# Altium schematic symbol library PAL.SCHLIB: 99 symbols
Pins are listed as number, name and electrical type; pins without a type are passive.

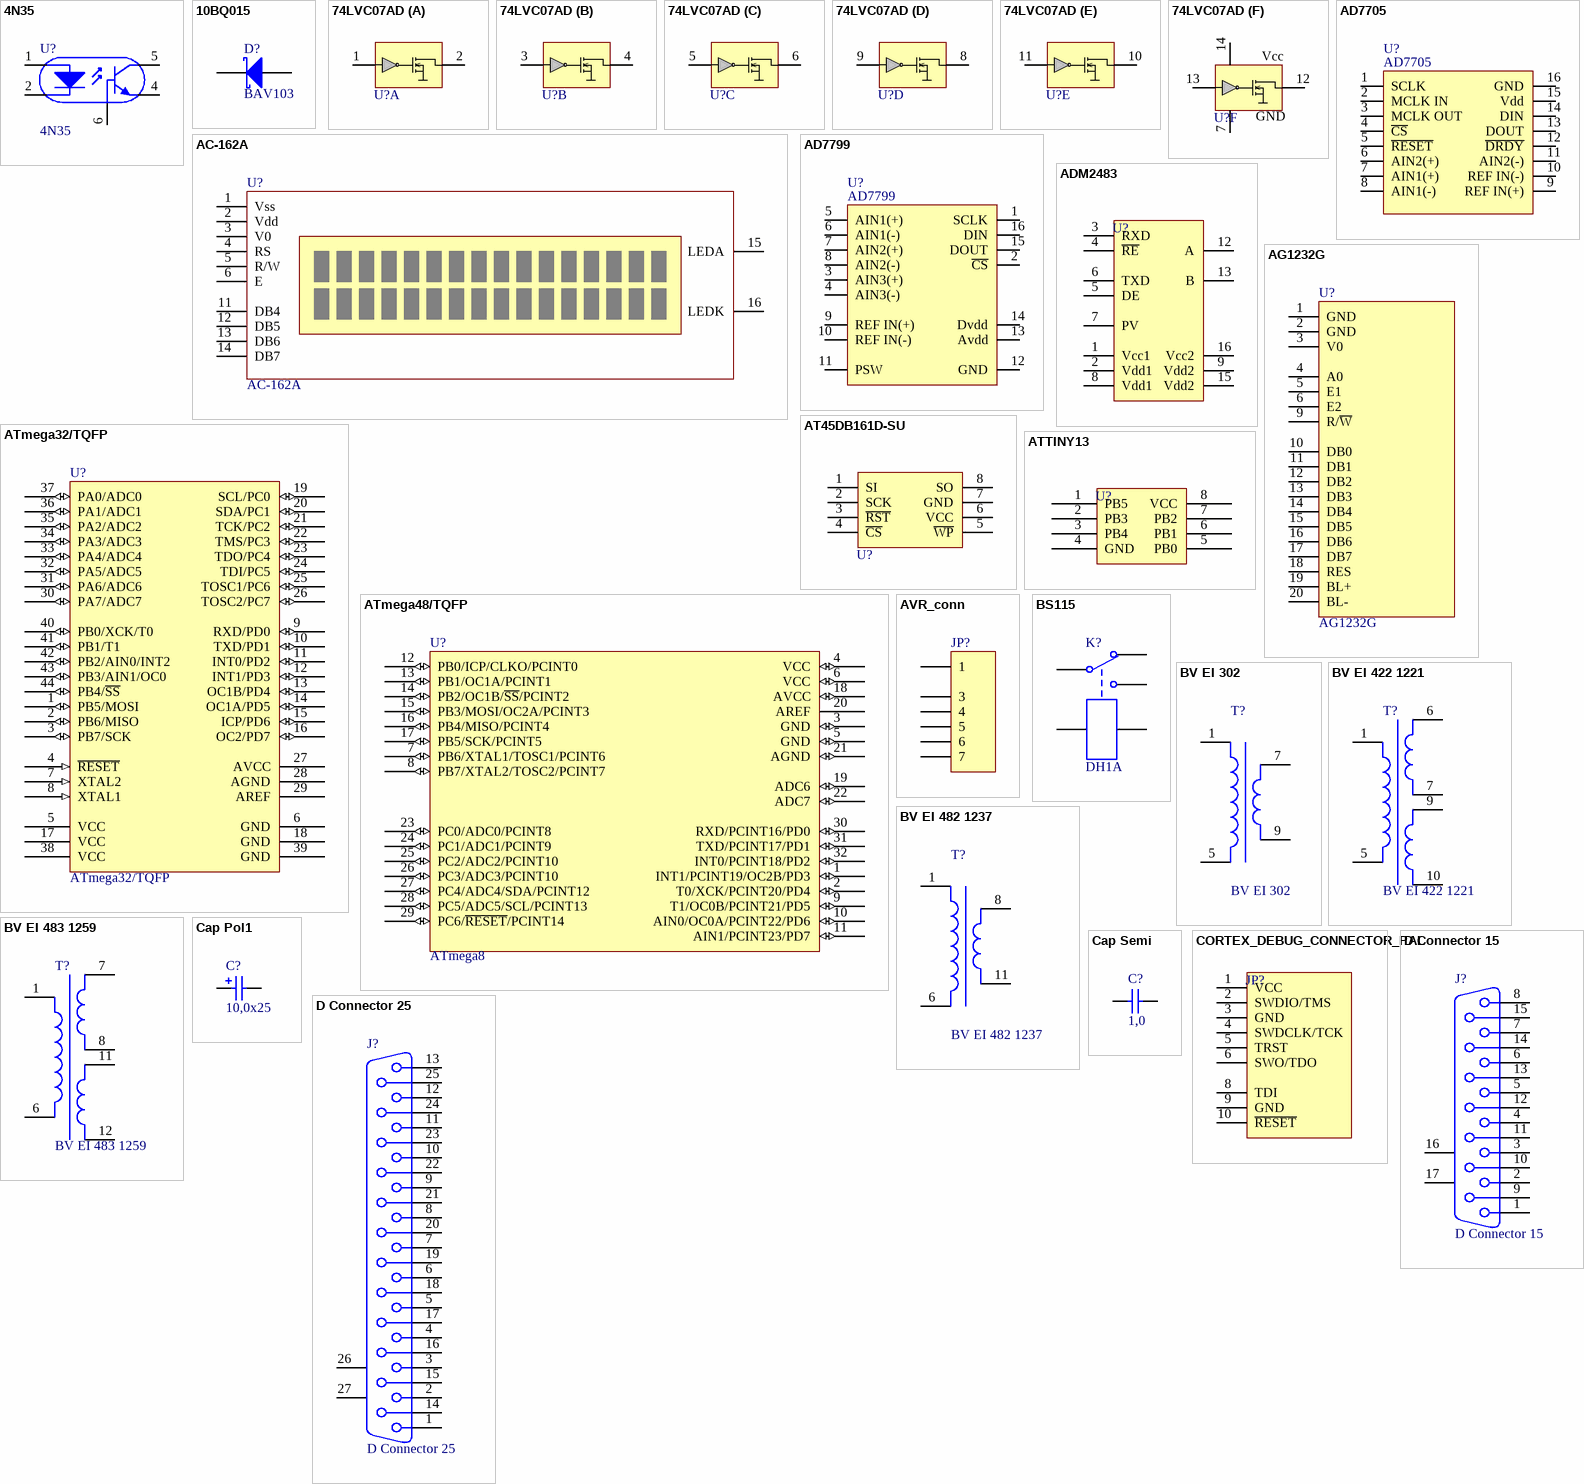
[diagram p0: symbols 4N35 to D Connector 25]

## 4N35
designator U?
footprint DIP-6
pins: 1 0, 2 1, 4, 5 2, 6 4

## 10BQ015
designator D?, comment BAV103
Schottky Rectifier; Manufacturer: International Rectifier; Revision 1: 10-July-2000: SIM Model Added.; Revision 2: July-2002: Re-released for DXP Platform.; Class I: Discrete; Class II: Rectifier - Schottky; Published: 8-Jun-2000; Datasheet: Latest Revision: PD-2.396A; Package Reference: DO-214AA; Publisher: Altium Limited
footprint _1206d (Footprint not found)
simulation model 10BQ015 (DIODE)
signal-integrity model 10BQ015
pins: 1 A, 2 K

## 74LVC07AD
designator U?
footprint SO-G14/E2
part A pins: 1 1A, 2 1Y
part B pins: 3 3A, 4 2Y
part C pins: 5 3A, 6 3Y
part D pins: 8 4Y, 9 4A
part E pins: 10 5Y, 11 5A
part F pins: 7 1Y, 12 6Y, 13 6A, 14 1Y
part F text: Vcc; GND

## AC-162A
designator U?
footprint AC162A_1
footprint AC-162A_sur
pins: 1 Vss, 2 Vdd, 3 V0, 4 RS, 5 R/W, 6 E, 11 DB4, 12 DB5, 13 DB6, 14 DB7, 15 LEDA, 16 LEDK

## AD7705
designator U?
ADC; Value: AD7705
footprint SO-G16/D10.4
pins: 1 SCLK, 2 MCLK IN, 3 MCLK OUT, 4 ~{CS}, 5 ~{RESET}, 6 AIN2(+), 7 AIN1(+), 8 AIN1(-), 9 REF IN(+), 10 REF IN(-), 11 AIN2(-), 12 ~{DRDY}, 13 DOUT, 14 DIN, 15 Vdd, 16 GND

## AD7799
designator U?
ADC; Value: AD7705
footprint SO-G16/D10.4
pins: 1 SCLK, 2 ~{CS}, 3 AIN3(+), 4 AIN3(-), 5 AIN1(+), 6 AIN1(-), 7 AIN2(+), 8 AIN2(-), 9 REF IN(+), 10 REF IN(-), 11 PSW, 12 GND, 13 Avdd, 14 Dvdd, 15 DOUT, 16 DIN

## ADM2483
designator U?
pins: 1 Vcc1, 2 Vdd1, 3 RXD, 4 ~{RE}, 5 DE, 6 TXD, 7 PV, 8 Vdd1, 9 Vdd2, 12 A, 13 B, 15 Vdd2, 16 Vcc2

## AG1232G
designator U?
footprint AG1232G
pins: 1 GND, 2 GND, 3 V0, 4 A0, 5 E1, 6 E2, 9 R/~{W}, 10 DB0, 11 DB1, 12 DB2, 13 DB3, 14 DB4, 15 DB5, 16 DB6, 17 DB7, 18 RES, 19 BL+, 20 BL-

## AT45DB161D-SU
designator U?
footprint SO-G8/G7
pins: 1 SI, 2 SCK, 3 ~{RST}, 4 ~{CS}, 5 ~{WP}, 6 VCC, 7 GND, 8 SO

## ATmega32/TQFP
designator U?
Right: 120; Bottom: 260
footprint QFP10X10-G44/N
pins: 1 PB5/MOSI (io), 2 PB6/MISO (io), 3 PB7/SCK (io), 4 ~{RESET} (in), 5 VCC (power), 6 GND (power), 7 XTAL2 (in), 8 XTAL1 (in), 9 RXD/PD0 (io), 10 TXD/PD1 (io), 11 INT0/PD2 (io), 12 INT1/PD3 (io), 13 OC1B/PD4 (io), 14 OC1A/PD5 (io), 15 ICP/PD6 (io), 16 OC2/PD7 (io), 17 VCC (power), 18 GND (power), 19 SCL/PC0 (io), 20 SDA/PC1 (io), 21 TCK/PC2 (io), 22 TMS/PC3 (io), 23 TDO/PC4 (io), 24 TDI/PC5 (io), 25 TOSC1/PC6 (io), 26 TOSC2/PC7 (io), 27 AVCC, 28 AGND, 29 AREF, 30 PA7/ADC7 (io), 31 PA6/ADC6 (io), 32 PA5/ADC5 (io), 33 PA4/ADC4 (io), 34 PA3/ADC3 (io), 35 PA2/ADC2 (io), 36 PA1/ADC1 (io), 37 PA0/ADC0 (io), 38 VCC (power), 39 GND (power), 40 PB0/XCK/T0 (io), 41 PB1/T1 (io), 42 PB2/AIN0/INT2 (io), 43 PB3/AIN1/OC0 (io), 44 PB4/~{SS} (io)

## ATmega48/TQFP
designator U?, comment ATmega8
Right: 180; Bottom: 200
footprint QFP7X7-G32/X.5N
pins: 1 INT1/PCINT19/OC2B/PD3 (io), 2 T0/XCK/PCINT20/PD4 (io), 3 GND (io), 4 VCC (io), 5 GND (io), 6 VCC (io), 7 PB6/XTAL1/TOSC1/PCINT6 (io), 8 PB7/XTAL2/TOSC2/PCINT7 (io), 9 T1/OC0B/PCINT21/PD5 (io), 10 AIN0/OC0A/PCINT22/PD6 (io), 11 AIN1/PCINT23/PD7 (io), 12 PB0/ICP/CLKO/PCINT0 (io), 13 PB1/OC1A/PCINT1 (io), 14 PB2/OC1B/~{SS}/PCINT2 (io), 15 PB3/MOSI/OC2A/PCINT3 (io), 16 PB4/MISO/PCINT4 (io), 17 PB5/SCK/PCINT5 (io), 18 AVCC (io), 19 ADC6 (io), 20 AREF, 21 AGND (io), 22 ADC7 (io), 23 PC0/ADC0/PCINT8 (io), 24 PC1/ADC1/PCINT9 (io), 25 PC2/ADC2/PCINT10 (io), 26 PC3/ADC3/PCINT10 (io), 27 PC4/ADC4/SDA/PCINT12 (io), 28 PC5/ADC5/SCL/PCINT13 (io), 29 PC6/~{RESET}/PCINT14 (io), 30 RXD/PCINT16/PD0 (io), 31 TXD/PCINT17/PD1 (io), 32 INT0/PCINT18/PD2 (io)

## ATTINY13
designator U?
pins: 1 PB5, 2 PB3, 3 PB4, 4 GND, 5 PB0, 6 PB1, 7 PB2, 8 VCC

## AVR_conn
designator JP?
Header, 7-Pin; Manufacturer: Generic Components; Class I: Connector; Revision: July-2002: Re-released for DXP Platform.; Publisher: Altium Limited
footprint AVR_CONN
pins: 1, 3, 4, 5, 6, 7

## BS115
designator K?, comment DH1A
Single-Pole Dual-Throw Relay; Manufacturer: Generic Components; Class I: Electro-mechanical; Published: 24-Mar-1999; Revision: July-2002: Re-released for DXP Platform.; Publisher: Altium Limited; Class II: Relay
footprint kuan
pins: 1, 2, 3, 4, 5

## BV EI 302
designator T?
Manufacturer: Generic Components; Class I: Passive; Class II: Transformer; Published: 25-Jan-2001; Revision: July-2002: Re-released for DXP Platform.; Publisher: Altium Limited
footprint TSP81
pins: 1 Pri+, 5 Pri-, 7 Sec1+, 9 Sec1-

## BV EI 422 1221
designator T?
Manufacturer: Generic Components; Class I: Passive; Class II: Transformer; Published: 25-Jan-2001; Revision: July-2002: Re-released for DXP Platform.; Publisher: Altium Limited
footprint TSP81
pins: 1 Pri+, 5 Pri-, 6 Sec1+, 7 Sec1-, 9 Sec1+, 10 Sec1-

## BV EI 482 1237
designator T?
Manufacturer: Generic Components; Class I: Passive; Class II: Transformer; Published: 25-Jan-2001; Revision: July-2002: Re-released for DXP Platform.; Publisher: Altium Limited
footprint TSP81
pins: 1 Pri+, 6 Pri-, 8 Sec1+, 11 Sec1-

## BV EI 483 1259
designator T?
Manufacturer: Generic Components; Class I: Passive; Class II: Transformer; Published: 25-Jan-2001; Revision: July-2002: Re-released for DXP Platform.; Publisher: Altium Limited
footprint TSP81
pins: 1 Pri+, 6 Pri-, 7 Sec1+, 8 Sec1-, 11 Sec1+, 12 Sec1-

## Cap Pol1
designator C?  value 10,0x25  (hidden comment: Cap Pol1)
Polarized Capacitor (Radial); Manufacturer: Generic Components; Class I: Passive; Published: 8-Jun-2000; Revision: July-2002: Re-released for DXP Platform.; Publisher: Altium Limited; Class II: Capacitor
footprint CAP_EL_6_3
simulation model CAP (Capacitor)
signal-integrity model Cap Pol
footprint el3
pins: 1, 2

## Cap Semi
designator C?  value 1,0  (hidden comment: Cap Semi)
Capacitor (Semiconductor SIM Model); Manufacturer: Generic Components; Class I: Passive; Published: 8-Jun-2000; Revision: July-2002: Re-released for DXP Platform.; Publisher: Altium Limited; Class II: Capacitor
footprint C3216-1206
simulation model CAP (Semiconductor Capacitor)
signal-integrity model Cap Semi
pins: 1, 2

## CORTEX_DEBUG_CONNECTOR_PAL
designator JP?
pins: 1 VCC, 2 SWDIO/TMS, 3 GND, 4 SWDCLK/TCK, 5 TRST, 6 SWO/TDO, 8 TDI, 9 GND, 10 ~{RESET}

## D Connector 15
designator J?
Receptacle Assembly, 15 Position, Right Angle; Manufacturer: Generic Components; Package Information: Latest Revision: O; Positions: 15; Published: 15-Jun-2001; Revision: July-2002: Re-released for DXP Platform.; Datasheet: (1-Sep-99); Package Reference: 788757; Publisher: Altium Limited; Class I: Connector; Orientation: Right Angle; Gender: Receptacle
footprint DSUB1.385-2H15
signal-integrity model Connector
pins: 1, 2, 3, 4, 5, 6, 7, 8, 9, 10, 11, 12, 13, 14, 15, 16 MH1, 17 MH2

## D Connector 25
designator J?
Receptacle Assembly, 25 Position, Right Angle; Manufacturer: Generic Components; Package Information: Latest Revision: U; Positions: 25; Published: 15-Jun-2001; Revision: July-2002: Re-released for DXP Platform.; Datasheet: (19-Mar-1999); Package Reference: 787202; Publisher: Altium Limited; Class I: Connector; Orientation: Right Angle; Gender: Receptacle
footprint DSUB1.385-2H25A
signal-integrity model Connector
pins: 1, 2, 3, 4, 5, 6, 7, 8, 9, 10, 11, 12, 13, 14, 15, 16, 17, 18, 19, 20, 21, 22, 23, 24, 25, 26 MH1, 27 MH2

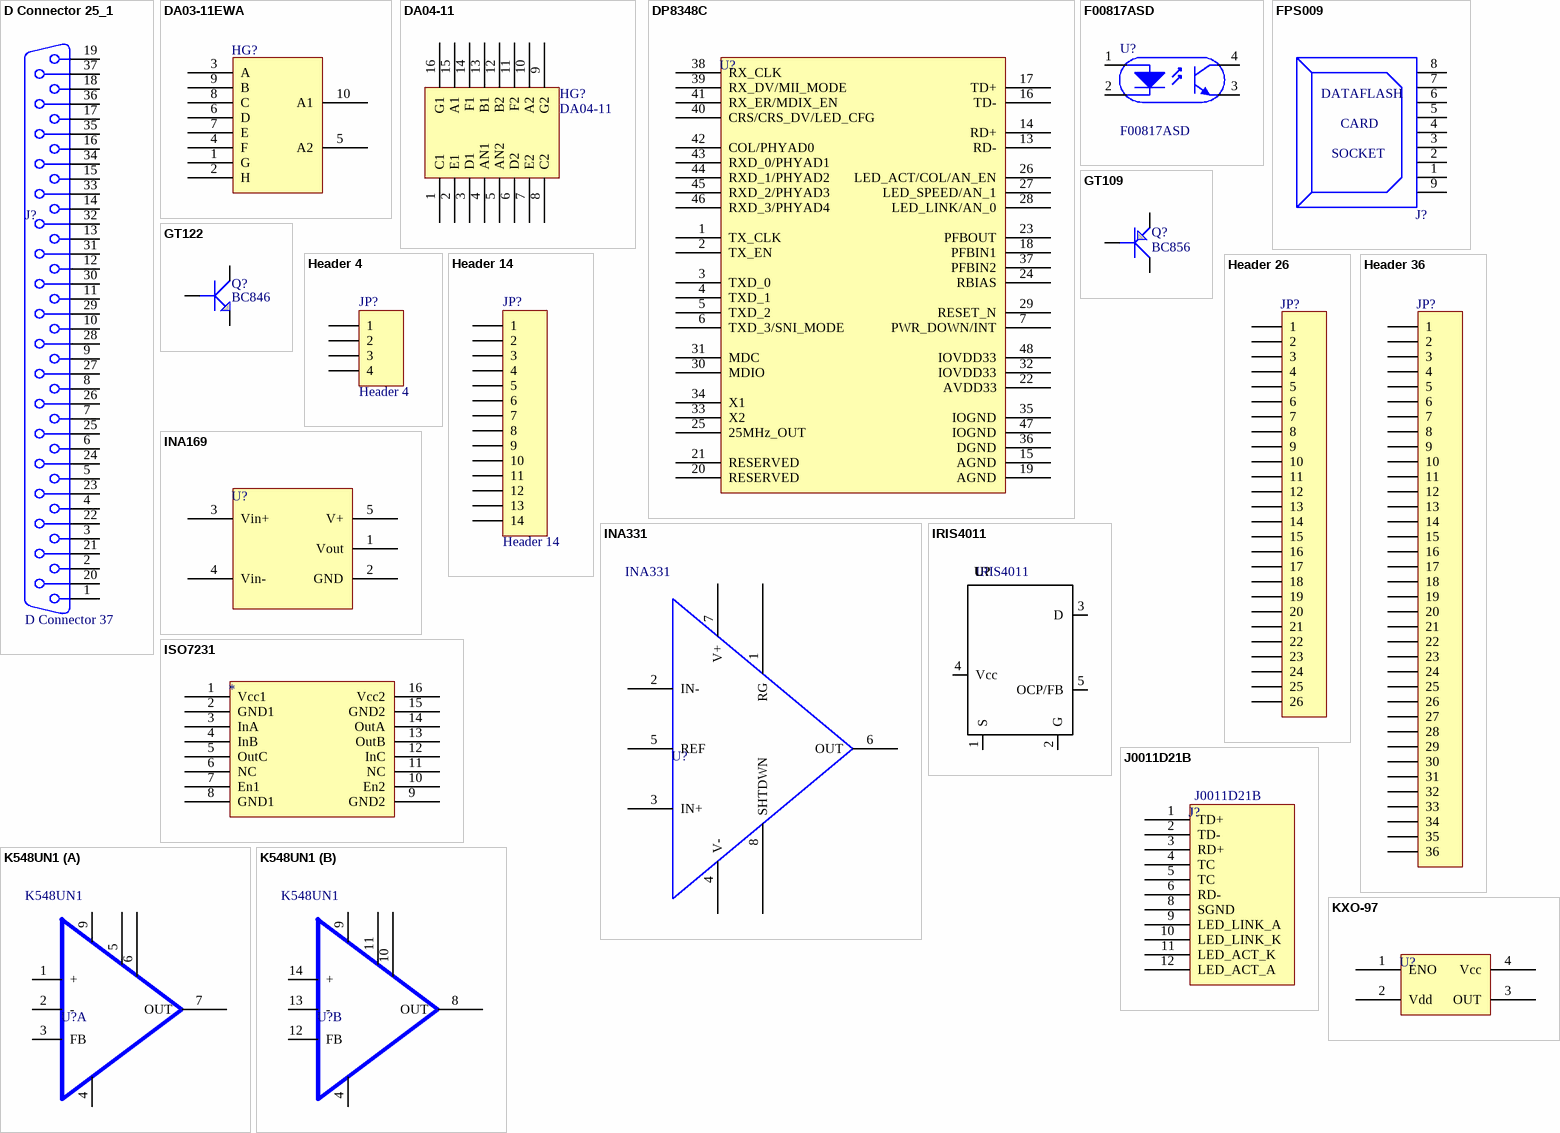
[diagram p1: symbols D Connector 25_1 to KXO-97]

## D Connector 25_1
designator J?, comment D Connector 37
Receptacle Assembly, 25 Position, Right Angle; Manufacturer: Generic Components; Package Information: Latest Revision: U; Positions: 25; Published: 15-Jun-2001; Revision: July-2002: Re-released for DXP Platform.; Datasheet: (19-Mar-1999); Package Reference: 787202; Publisher: Altium Limited; Class I: Connector; Orientation: Right Angle; Gender: Receptacle
footprint DSUB1.385-2H25A
signal-integrity model Connector
pins: 1, 2, 3, 4, 5, 6, 7, 8, 9, 10, 11, 12, 13, 14, 15, 16, 17, 18, 19, 20, 21, 22, 23, 24, 25, 26, 27, 28, 29, 30, 31, 32, 33, 34, 35, 36, 37

## DA03-11EWA
designator HG?
pins: 1 G, 2 H, 3 A, 4 F, 5 A2, 6 D, 7 E, 8 C, 9 B, 10 A1

## DA04-11
designator HG?
footprint DA04-11
pins: 1 C1, 2 E1, 3 D1, 4 AN1, 5 AN2, 6 D2, 7 E2, 8 C2, 9 G2, 10 A2, 11 F2, 12 B2, 13 B1, 14 F1, 15 A1, 16 G1

## DP8348C
designator U?
pins: 1 TX_CLK, 2 TX_EN, 3 TXD_0, 4 TXD_1, 5 TXD_2, 6 TXD_3/SNI_MODE, 7 PWR_DOWN/INT, 13 RD-, 14 RD+, 15 AGND, 16 TD-, 17 TD+, 18 PFBIN1, 19 AGND, 20 RESERVED, 21 RESERVED, 22 AVDD33, 23 PFBOUT, 24 RBIAS, 25 25MHz_OUT, 26 LED_ACT/COL/AN_EN, 27 LED_SPEED/AN_1, 28 LED_LINK/AN_0, 29 RESET_N, 30 MDIO, 31 MDC, 32 IOVDD33, 33 X2, 34 X1, 35 IOGND, 36 DGND, 37 PFBIN2, 38 RX_CLK, 39 RX_DV/MII_MODE, 40 CRS/CRS_DV/LED_CFG, 41 RX_ER/MDIX_EN, 42 COL/PHYAD0, 43 RXD_0/PHYAD1, 44 RXD_1/PHYAD2, 45 RXD_2/PHYAD3, 46 RXD_3/PHYAD4, 47 IOGND, 48 IOVDD33

## F00817ASD
designator U?
footprint DIP-6
pins: 1 0, 2 1, 3 4, 4 2

## FPS009
designator J?
DATAFLASH CARD SOCKET
pins: 1, 2, 3, 4, 5, 6, 7, 8, 9
text: DATAFLASH; CARD; SOCKET

## GT109
designator Q?, comment BC856
Right: 20; Bottom: 20
footprint SO-G3 (Model Description)
pins: 1 B, 2 E, 3 C

## GT122
designator Q?, comment BC846
Right: 20; Bottom: 20
footprint SO-G3 (Model Description)
pins: 1 B, 2 E, 3 C

## Header 4
designator JP?
Header, 4-Pin; Manufacturer: Generic Components; Class I: Connector; Revision: July-2002: Re-released for DXP Platform.; Publisher: Altium Limited
footprint HDR1X4
signal-integrity model Connector
pins: 1, 2, 3, 4

## Header 14
designator JP?
Header, 14-Pin; Manufacturer: Generic Components; Class I: Connector; Revision: July-2002: Re-released for DXP Platform.; Publisher: Altium Limited
footprint HDR2X7
signal-integrity model Connector
pins: 1, 2, 3, 4, 5, 6, 7, 8, 9, 10, 11, 12, 13, 14

## Header 26
designator JP?
Header, 26-Pin; Manufacturer: Generic Components; Class I: Connector; Revision: July-2002: Re-released for DXP Platform.; Publisher: Altium Limited
footprint HDR1X25
signal-integrity model Connector
pins: 1, 2, 3, 4, 5, 6, 7, 8, 9, 10, 11, 12, 13, 14, 15, 16, 17, 18, 19, 20, 21, 22, 23, 24, 25, 26

## Header 36
designator JP?
Header, 36-Pin; Manufacturer: Generic Components; Class I: Connector; Revision: July-2002: Re-released for DXP Platform.; Publisher: Altium Limited
footprint HDR1X25
signal-integrity model Connector
pins: 1, 2, 3, 4, 5, 6, 7, 8, 9, 10, 11, 12, 13, 14, 15, 16, 17, 18, 19, 20, 21, 22, 23, 24, 25, 26, 27, 28, 29, 30, 31, 32, 33, 34, 35, 36

## INA169
designator U?
footprint SO-G5/P.95 (Footprint not found)
pins: 1 Vout, 2 GND, 3 Vin+, 4 Vin-, 5 V+

## INA331
designator U?
pins: 1 RG, 2 IN-, 3 IN+, 4 V-, 5 REF, 6 OUT, 7 V+, 8 SHTDWN

## IRIS4011
designator U?
TYPE: IRIS4011
footprint TO-220HS (TO, Thru-Hole, Vertical, Heatsink Mounted; 5 In-Line Leads; Pitch 1.71 mm)
pins: 1 S, 2 G, 3 D, 4 Vcc, 5 OCP/FB

## ISO7231
designator *
pins: 1 Vcc1, 2 GND1, 3 InA, 4 InB, 5 OutC, 6 NC, 7 En1, 8 GND1, 9 GND2, 10 En2, 11 NC, 12 InC, 13 OutB, 14 OutA, 15 GND2, 16 Vcc2

## J0011D21B
designator J?
pins: 1 TD+, 2 TD-, 3 RD+, 4 TC, 5 TC, 6 RD-, 8 SGND, 9 LED_LINK_A, 10 LED_LINK_K, 11 LED_ACT_K, 12 LED_ACT_A

## K548UN1
designator U?
Dual motor driver; Manufacturer: International Rectifier; Revision 1: 29-Sep-2000: Re-orientated a 'Drain' pin on first part.; Revision 2: July-2002: Re-released for DXP Platform.; Class I: Discrete; Class II: MOSFET - Power; Published: 8-Jun-2000; Datasheet: Latest Revision: Aug-1997; Package Reference: SOIC8; Publisher: Altium Limited
footprint SO-G8/Y2.2
part A pins: 1 +, 2 -, 3 FB, 4 GND, 5 GND, 6 GND, 7 OUT, 9 GND
part B pins: 4 GND, 8 OUT, 9 GND, 10 GND, 11 GND, 12 FB, 13 -, 14 +

## KXO-97
designator U?
pins: 1 ENO, 2 Vdd, 3 OUT, 4 Vcc

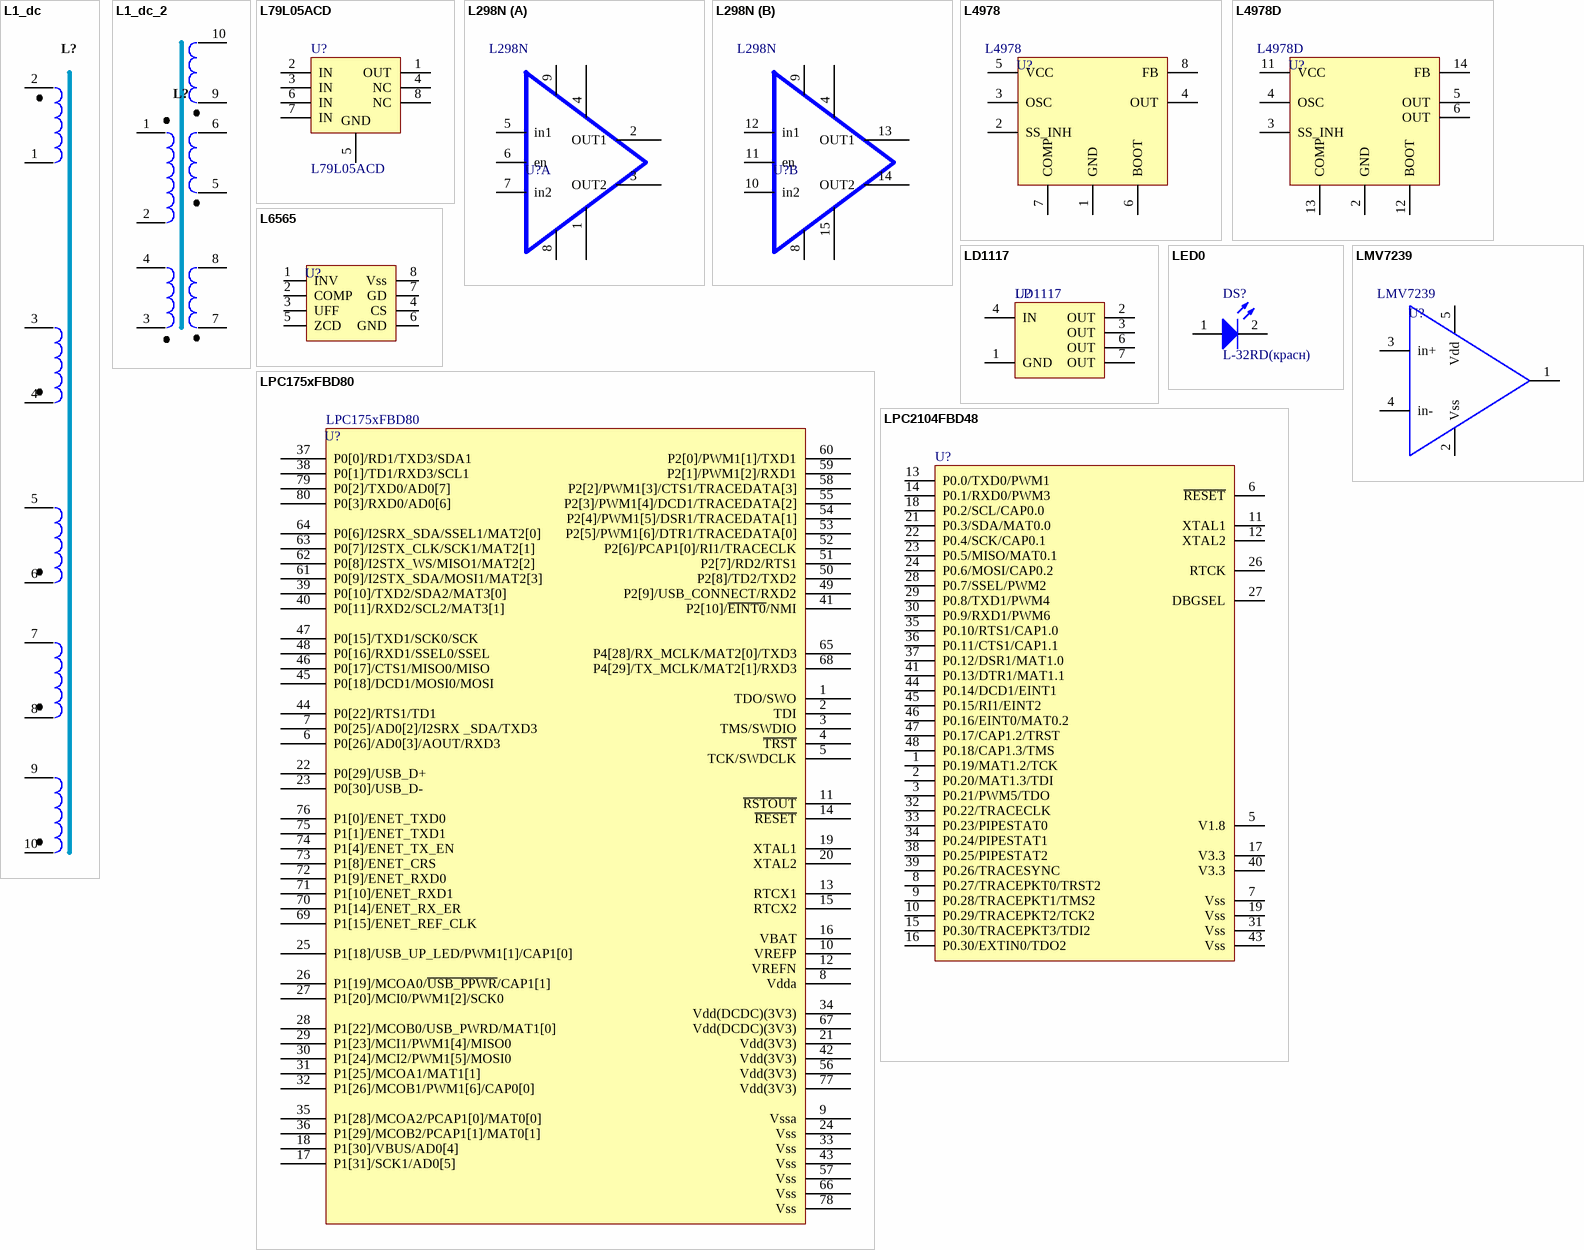
[diagram p2: symbols L1_dc to LPC2104FBD48]

## L1_dc
designator L?  (value not drawn)
Дроссель
footprint E25/13/7_EF-25_P-2549
pins: 1, 2, 3, 4, 5, 6, 7, 8, 9, 10

## L1_dc_2
designator L?  (value not drawn)
Дроссель
footprint E25/13/7_EF-25_P-2549
pins: 1, 2, 3, 4, 5, 6, 7, 8, 9, 10

## L79L05ACD
designator U?
Negative Voltage Regulator; Manufacturer: ST-Microelectronics; Package Information: Latest Revision: Jul-1998; Class I: Power Management; Published: 24-Aug-2001; Revision: July-2002: Re-released for DXP Platform.; Datasheet: Latest Revision: Apr-1999; Package Reference: SO8; Publisher: Altium Limited; Class II: Voltage Regulator
footprint SO-G8
pins: 1 OUT (power), 2 IN (power), 3 IN (power), 4 NC, 5 GND (power), 6 IN (power), 7 IN (power), 8 NC

## L298N
designator U?
Dual motor driver; Manufacturer: International Rectifier; Revision 1: 29-Sep-2000: Re-orientated a 'Drain' pin on first part.; Revision 2: July-2002: Re-released for DXP Platform.; Class I: Discrete; Class II: MOSFET - Power; Published: 8-Jun-2000; Datasheet: Latest Revision: Aug-1997; Package Reference: SOIC8; Publisher: Altium Limited
footprint SO-G8/Y2.2
part A pins: 1 GND, 2 OUT1, 3 OUT2, 4 GND, 5 in1, 6 en, 7 in2, 8 GND, 9 GND
part B pins: 4 GND, 8 GND, 9 GND, 10 in2, 11 en, 12 in1, 13 OUT1, 14 OUT2, 15 GND

## L4978
designator U?
pins: 1 GND, 2 SS_INH, 3 OSC, 4 OUT, 5 VCC, 6 BOOT, 7 COMP, 8 FB

## L4978D
designator U?
pins: 2 GND, 3 SS_INH, 4 OSC, 5 OUT, 6 OUT, 11 VCC, 12 BOOT, 13 COMP, 14 FB

## L6565
designator U?
pins: 1 INV, 2 COMP, 3 UFF, 4 CS, 5 ZCD, 6 GND, 7 GD, 8 Vss

## LD1117
designator U?
Negative Voltage Regulator; Manufacturer: ST-Microelectronics; Package Information: Latest Revision: Jul-1998; Class I: Power Management; Published: 24-Aug-2001; Revision: July-2002: Re-released for DXP Platform.; Datasheet: Latest Revision: Apr-1999; Package Reference: SO8; Publisher: Altium Limited; Class II: Voltage Regulator
footprint SO-G8
pins: 1 GND (power), 2 OUT (power), 3 OUT (power), 4 IN (power), 6 OUT (power), 7 OUT (power)

## LED0
designator DS?, comment L-32RD(красн)
Typical INFRARED GaAs LED; Manufacturer: Generic Components; Class I: Optoelectronic; Published: 8-Jun-2000; Revision: July-2002: Re-released for DXP Platform.; Publisher: Altium Limited; Class II: LED
footprint el3
simulation model LED0 (Diode)
pins: 1 A, 2 K

## LMV7239
designator U?
pins: 1 GND, 2 Vss, 3 in+, 4 in-, 5 Vdd

## LPC175xFBD80
designator U?
footprint LPC2368
pins: 1 TDO/SWO, 2 TDI, 3 TMS/SWDIO, 4 ~{TRST}, 5 TCK/SWDCLK, 6 P0[26]/AD0[3]/AOUT/RXD3, 7 P0[25]/AD0[2]/I2SRX _SDA/TXD3, 8 Vdda, 9 Vssa, 10 VREFP, 11 ~{RSTOUT}, 12 VREFN, 13 RTCX1, 14 ~{RESET}, 15 RTCX2, 16 VBAT, 17 P1[31]/SCK1/AD0[5], 18 P1[30]/VBUS/AD0[4], 19 XTAL1, 20 XTAL2, 21 Vdd(3V3), 22 P0[29]/USB_D+, 23 P0[30]/USB_D-, 24 Vss, 25 P1[18]/USB_UP_LED/PWM1[1]/CAP1[0], 26 P1[19]/MCOA0/~{USB_PPWR}/CAP1[1], 27 P1[20]/MCI0/PWM1[2]/SCK0, 28 P1[22]/MCOB0/USB_PWRD/MAT1[0], 29 P1[23]/MCI1/PWM1[4]/MISO0, 30 P1[24]/MCI2/PWM1[5]/MOSI0, 31 P1[25]/MCOA1/MAT1[1], 32 P1[26]/MCOB1/PWM1[6]/CAP0[0], 33 Vss, 34 Vdd(DCDC)(3V3), 35 P1[28]/MCOA2/PCAP1[0]/MAT0[0], 36 P1[29]/MCOB2/PCAP1[1]/MAT0[1], 37 P0[0]/RD1/TXD3/SDA1, 38 P0[1]/TD1/RXD3/SCL1, 39 P0[10]/TXD2/SDA2/MAT3[0], 40 P0[11]/RXD2/SCL2/MAT3[1], 41 P2[10]/~{EINT0}/NMI, 42 Vdd(3V3), 43 Vss, 44 P0[22]/RTS1/TD1, 45 P0[18]/DCD1/MOSI0/MOSI, 46 P0[17]/CTS1/MISO0/MISO, 47 P0[15]/TXD1/SCK0/SCK, 48 P0[16]/RXD1/SSEL0/SSEL, 49 P2[9]/USB_CONNECT/RXD2, 50 P2[8]/TD2/TXD2, 51 P2[7]/RD2/RTS1, 52 P2[6]/PCAP1[0]/RI1/TRACECLK, 53 P2[5]/PWM1[6]/DTR1/TRACEDATA[0], 54 P2[4]/PWM1[5]/DSR1/TRACEDATA[1], 55 P2[3]/PWM1[4]/DCD1/TRACEDATA[2], 56 Vdd(3V3), 57 Vss, 58 P2[2]/PWM1[3]/CTS1/TRACEDATA[3], 59 P2[1]/PWM1[2]/RXD1, 60 P2[0]/PWM1[1]/TXD1, 61 P0[9]/I2STX_SDA/MOSI1/MAT2[3], 62 P0[8]/I2STX_WS/MISO1/MAT2[2], 63 P0[7]/I2STX_CLK/SCK1/MAT2[1], 64 P0[6]/I2SRX_SDA/SSEL1/MAT2[0], 65 P4[28]/RX_MCLK/MAT2[0]/TXD3, 66 Vss, 67 Vdd(DCDC)(3V3), 68 P4[29]/TX_MCLK/MAT2[1]/RXD3, 69 P1[15]/ENET_REF_CLK, 70 P1[14]/ENET_RX_ER, 71 P1[10]/ENET_RXD1, 72 P1[9]/ENET_RXD0, 73 P1[8]/ENET_CRS, 74 P1[4]/ENET_TX_EN, 75 P1[1]/ENET_TXD1, 76 P1[0]/ENET_TXD0, 77 Vdd(3V3), 78 Vss, 79 P0[2]/TXD0/AD0[7], 80 P0[3]/RXD0/AD0[6]

## LPC2104FBD48
designator U?
footprint F-QFP7X7-G48/N
pins: 1 P0.19/MAT1.2/TCK, 2 P0.20/MAT1.3/TDI, 3 P0.21/PWM5/TDO, 5 V1.8, 6 ~{RESET}, 7 Vss, 8 P0.27/TRACEPKT0/TRST2, 9 P0.28/TRACEPKT1/TMS2, 10 P0.29/TRACEPKT2/TCK2, 11 XTAL1, 12 XTAL2, 13 P0.0/TXD0/PWM1, 14 P0.1/RXD0/PWM3, 15 P0.30/TRACEPKT3/TDI2, 16 P0.30/EXTIN0/TDO2, 17 V3.3, 18 P0.2/SCL/CAP0.0, 19 Vss, 21 P0.3/SDA/MAT0.0, 22 P0.4/SCK/CAP0.1, 23 P0.5/MISO/MAT0.1, 24 P0.6/MOSI/CAP0.2, 26 RTCK, 27 DBGSEL, 28 P0.7/SSEL/PWM2, 29 P0.8/TXD1/PWM4, 30 P0.9/RXD1/PWM6, 31 Vss, 32 P0.22/TRACECLK, 33 P0.23/PIPESTAT0, 34 P0.24/PIPESTAT1, 35 P0.10/RTS1/CAP1.0, 36 P0.11/CTS1/CAP1.1, 37 P0.12/DSR1/MAT1.0, 38 P0.25/PIPESTAT2, 39 P0.26/TRACESYNC, 40 V3.3, 41 P0.13/DTR1/MAT1.1, 43 Vss, 44 P0.14/DCD1/EINT1, 45 P0.15/RI1/EINT2, 46 P0.16/EINT0/MAT0.2, 47 P0.17/CAP1.2/TRST, 48 P0.18/CAP1.3/TMS

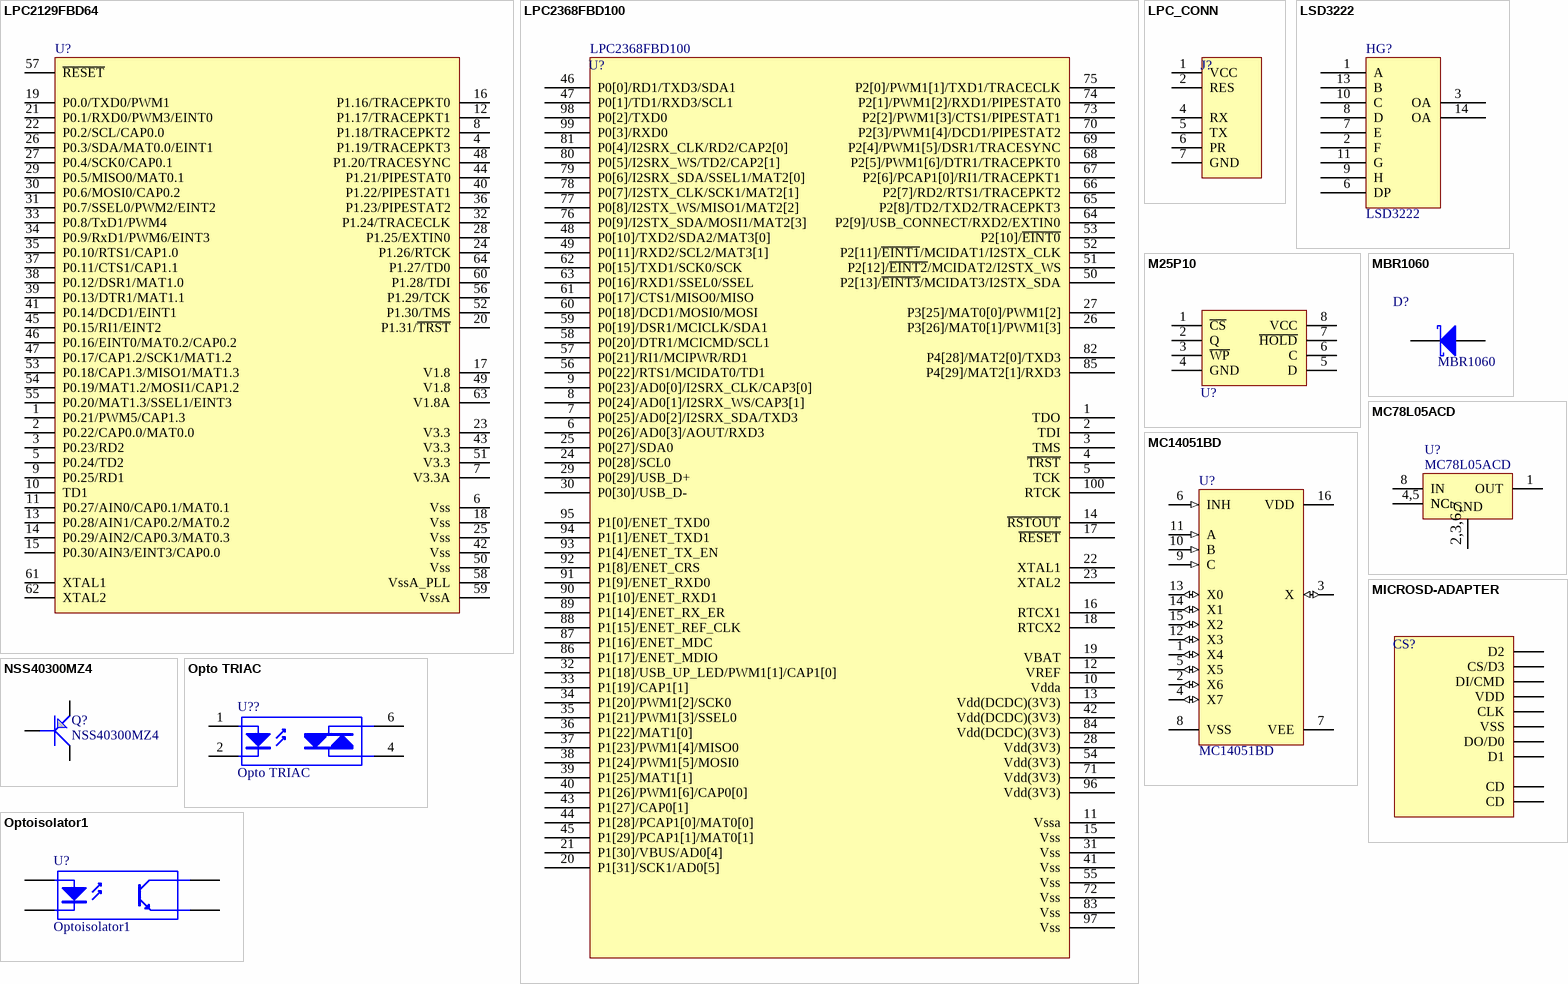
[diagram p3: symbols LPC2129FBD64 to Optoisolator1]

## LPC2129FBD64
designator U?
footprint F-QFP10X10-G64/P.5N
pins: 1 P0.21/PWM5/CAP1.3, 2 P0.22/CAP0.0/MAT0.0, 3 P0.23/RD2, 4 P1.19/TRACEPKT3, 5 P0.24/TD2, 6 Vss, 7 V3.3A, 8 P1.18/TRACEPKT2, 9 P0.25/RD1, 10 TD1, 11 P0.27/AIN0/CAP0.1/MAT0.1, 12 P1.17/TRACEPKT1, 13 P0.28/AIN1/CAP0.2/MAT0.2, 14 P0.29/AIN2/CAP0.3/MAT0.3, 15 P0.30/AIN3/EINT3/CAP0.0, 16 P1.16/TRACEPKT0, 17 V1.8, 18 Vss, 19 P0.0/TXD0/PWM1, 20 P1.31/~{TRST}, 21 P0.1/RXD0/PWM3/EINT0, 22 P0.2/SCL/CAP0.0, 23 V3.3, 24 P1.26/RTCK, 25 Vss, 26 P0.3/SDA/MAT0.0/EINT1, 27 P0.4/SCK0/CAP0.1, 28 P1.25/EXTIN0, 29 P0.5/MISO0/MAT0.1, 30 P0.6/MOSI0/CAP0.2, 31 P0.7/SSEL0/PWM2/EINT2, 32 P1.24/TRACECLK, 33 P0.8/TxD1/PWM4, 34 P0.9/RxD1/PWM6/EINT3, 35 P0.10/RTS1/CAP1.0, 36 P1.23/PIPESTAT2, 37 P0.11/CTS1/CAP1.1, 38 P0.12/DSR1/MAT1.0, 39 P0.13/DTR1/MAT1.1, 40 P1.22/PIPESTAT1, 41 P0.14/DCD1/EINT1, 42 Vss, 43 V3.3, 44 P1.21/PIPESTAT0, 45 P0.15/RI1/EINT2, 46 P0.16/EINT0/MAT0.2/CAP0.2, 47 P0.17/CAP1.2/SCK1/MAT1.2, 48 P1.20/TRACESYNC, 49 V1.8, 50 Vss, 51 V3.3, 52 P1.30/TMS, 53 P0.18/CAP1.3/MISO1/MAT1.3, 54 P0.19/MAT1.2/MOSI1/CAP1.2, 55 P0.20/MAT1.3/SSEL1/EINT3, 56 P1.29/TCK, 57 ~{RESET}, 58 VssA_PLL, 59 VssA, 60 P1.28/TDI, 61 XTAL1, 62 XTAL2, 63 V1.8A, 64 P1.27/TD0

## LPC2368FBD100
designator U?
footprint LPC2368
pins: 1 TDO, 2 TDI, 3 TMS, 4 ~{TRST}, 5 TCK, 6 P0[26]/AD0[3]/AOUT/RXD3, 7 P0[25]/AD0[2]/I2SRX_SDA/TXD3, 8 P0[24]/AD0[1]/I2SRX_WS/CAP3[1], 9 P0[23]/AD0[0]/I2SRX_CLK/CAP3[0], 10 Vdda, 11 Vssa, 12 VREF, 13 Vdd(DCDC)(3V3), 14 ~{RSTOUT}, 15 Vss, 16 RTCX1, 17 ~{RESET}, 18 RTCX2, 19 VBAT, 20 P1[31]/SCK1/AD0[5], 21 P1[30]/VBUS/AD0[4], 22 XTAL1, 23 XTAL2, 24 P0[28]/SCL0, 25 P0[27]/SDA0, 26 P3[26]/MAT0[1]/PWM1[3], 27 P3[25]/MAT0[0]/PWM1[2], 28 Vdd(3V3), 29 P0[29]/USB_D+, 30 P0[30]/USB_D-, 31 Vss, 32 P1[18]/USB_UP_LED/PWM1[1]/CAP1[0], 33 P1[19]/CAP1[1], 34 P1[20]/PWM1[2]/SCK0, 35 P1[21]/PWM1[3]/SSEL0, 36 P1[22]/MAT1[0], 37 P1[23]/PWM1[4]/MISO0, 38 P1[24]/PWM1[5]/MOSI0, 39 P1[25]/MAT1[1], 40 P1[26]/PWM1[6]/CAP0[0], 41 Vss, 42 Vdd(DCDC)(3V3), 43 P1[27]/CAP0[1], 44 P1[28]/PCAP1[0]/MAT0[0], 45 P1[29]/PCAP1[1]/MAT0[1], 46 P0[0]/RD1/TXD3/SDA1, 47 P0[1]/TD1/RXD3/SCL1, 48 P0[10]/TXD2/SDA2/MAT3[0], 49 P0[11]/RXD2/SCL2/MAT3[1], 50 P2[13]/~{EINT3}/MCIDAT3/I2STX_SDA, 51 P2[12]/~{EINT2}/MCIDAT2/I2STX_WS, 52 P2[11]/~{EINT1}/MCIDAT1/I2STX_CLK, 53 P2[10]/~{EINT0}, 54 Vdd(3V3), 55 Vss, 56 P0[22]/RTS1/MCIDAT0/TD1, 57 P0[21]/RI1/MCIPWR/RD1, 58 P0[20]/DTR1/MCICMD/SCL1, 59 P0[19]/DSR1/MCICLK/SDA1, 60 P0[18]/DCD1/MOSI0/MOSI, 61 P0[17]/CTS1/MISO0/MISO, 62 P0[15]/TXD1/SCK0/SCK, 63 P0[16]/RXD1/SSEL0/SSEL, 64 P2[9]/USB_CONNECT/RXD2/EXTIN0, 65 P2[8]/TD2/TXD2/TRACEPKT3, 66 P2[7]/RD2/RTS1/TRACEPKT2, 67 P2[6]/PCAP1[0]/RI1/TRACEPKT1, 68 P2[5]/PWM1[6]/DTR1/TRACEPKT0, 69 P2[4]/PWM1[5]/DSR1/TRACESYNC, 70 P2[3]/PWM1[4]/DCD1/PIPESTAT2, 71 Vdd(3V3), 72 Vss, 73 P2[2]/PWM1[3]/CTS1/PIPESTAT1, 74 P2[1]/PWM1[2]/RXD1/PIPESTAT0, 75 P2[0]/PWM1[1]/TXD1/TRACECLK, 76 P0[9]/I2STX_SDA/MOSI1/MAT2[3], 77 P0[8]/I2STX_WS/MISO1/MAT2[2], 78 P0[7]/I2STX_CLK/SCK1/MAT2[1], 79 P0[6]/I2SRX_SDA/SSEL1/MAT2[0], 80 P0[5]/I2SRX_WS/TD2/CAP2[1], 81 P0[4]/I2SRX_CLK/RD2/CAP2[0], 82 P4[28]/MAT2[0]/TXD3, 83 Vss, 84 Vdd(DCDC)(3V3), 85 P4[29]/MAT2[1]/RXD3, 86 P1[17]/ENET_MDIO, 87 P1[16]/ENET_MDC, 88 P1[15]/ENET_REF_CLK, 89 P1[14]/ENET_RX_ER, 90 P1[10]/ENET_RXD1, 91 P1[9]/ENET_RXD0, 92 P1[8]/ENET_CRS, 93 P1[4]/ENET_TX_EN, 94 P1[1]/ENET_TXD1, 95 P1[0]/ENET_TXD0, 96 Vdd(3V3), 97 Vss, 98 P0[2]/TXD0, 99 P0[3]/RXD0, 100 RTCK

## LPC_CONN
designator J?
pins: 1 VCC, 2 RES, 4 RX, 5 TX, 6 PR, 7 GND

## LSD3222
designator HG?
footprint LSD3222
pins: 1 A, 2 F, 3 OA, 6 DP, 7 E, 8 D, 9 H, 10 C, 11 G, 13 B, 14 OA

## M25P10
designator U?
footprint SO-G8
pins: 1 ~{CS}, 2 Q, 3 ~{WP}, 4 GND, 5 D, 6 C, 7 ~{HOLD}, 8 VCC

## MBR1060
designator D?
Schottky Rectifier; Manufacturer: International Rectifier; Revision 1: 10-July-2000: SIM Model Added.; Revision 2: July-2002: Re-released for DXP Platform.; Class I: Discrete; Class II: Rectifier - Schottky; Published: 8-Jun-2000; Datasheet: Latest Revision: PD-2.396A; Package Reference: DO-214AA; Publisher: Altium Limited
footprint MBR1060 (Footprint not found)
simulation model 10BQ015 (DIODE)
signal-integrity model 10BQ015
pins: 1 K, 2 A

## MC78L05ACD
designator U?
3-Terminal Low-Current Positive Fixed Voltage Regulator; Manufacturer: Motorola; Class I: Power Management; Published: 15-Apr-2002; Datasheet: Linear and Interface Integrated Circuits, DL128 Rev2 (1988); Package Reference: 751-02; Publisher: Altium Limited; Class II: Voltage Regulator
footprint SO-G8
pins: 1 OUT (power), 2 GND (power), 3 GND (power), 4 NC, 5 NC, 6 GND (power), 7 GND (power), 8 IN (power)
text: 4,5; 2,3,6,7

## MC14051BD
designator U?
8-Channel Analog Multiplexer/Demultiplexer; Manufacturer: ON Semiconductor; Class I: Logic; Class II: Multiplexer/Encoder/Selector; Published: 15-Apr-2002; Package Reference: 751B-05; Publisher: Altium Limited
footprint SO-G16/C5.85
pins: 1 X4 (io), 2 X6 (io), 3 X (io), 4 X7 (io), 5 X5 (io), 6 INH (in), 7 VEE (power), 8 VSS (power), 9 C (in), 10 B (in), 11 A (in), 12 X3 (io), 13 X0 (io), 14 X1 (io), 15 X2 (io), 16 VDD (power)

## MICROSD-ADAPTER
designator CS?
pins: 1 D2, 2 CS/D3, 3 DI/CMD, 4 VDD, 5 CLK, 6 VSS, 7 DO/D0, 8 D1, 9 CD, 10 CD

## NSS40300MZ4
designator Q?
Right: 20; Bottom: 20
footprint DSO-G3
pins: 1 B, 2 C, 3 E, 4 C

## Opto TRIAC
designator U??
Opto-Triac; Manufacturer: Generic Components; Class I: Optoelectronic; Published: 24-Mar-1999; Revision: July-2002: Re-released for DXP Platform.; Publisher: Altium Limited
footprint SIP-P4/A7.5
pins: 1 A, 2 K, 4 A/K, 6 A/K

## Optoisolator1
designator U?
Optoisolator; Manufacturer: Generic Components; Class I: Optoelectronic; Published: 24-Mar-1999; Revision: July-2002: Re-released for DXP Platform.; Publisher: Altium Limited
footprint SO-G4
pins: 1 A, 2 K, 3 E, 4 C

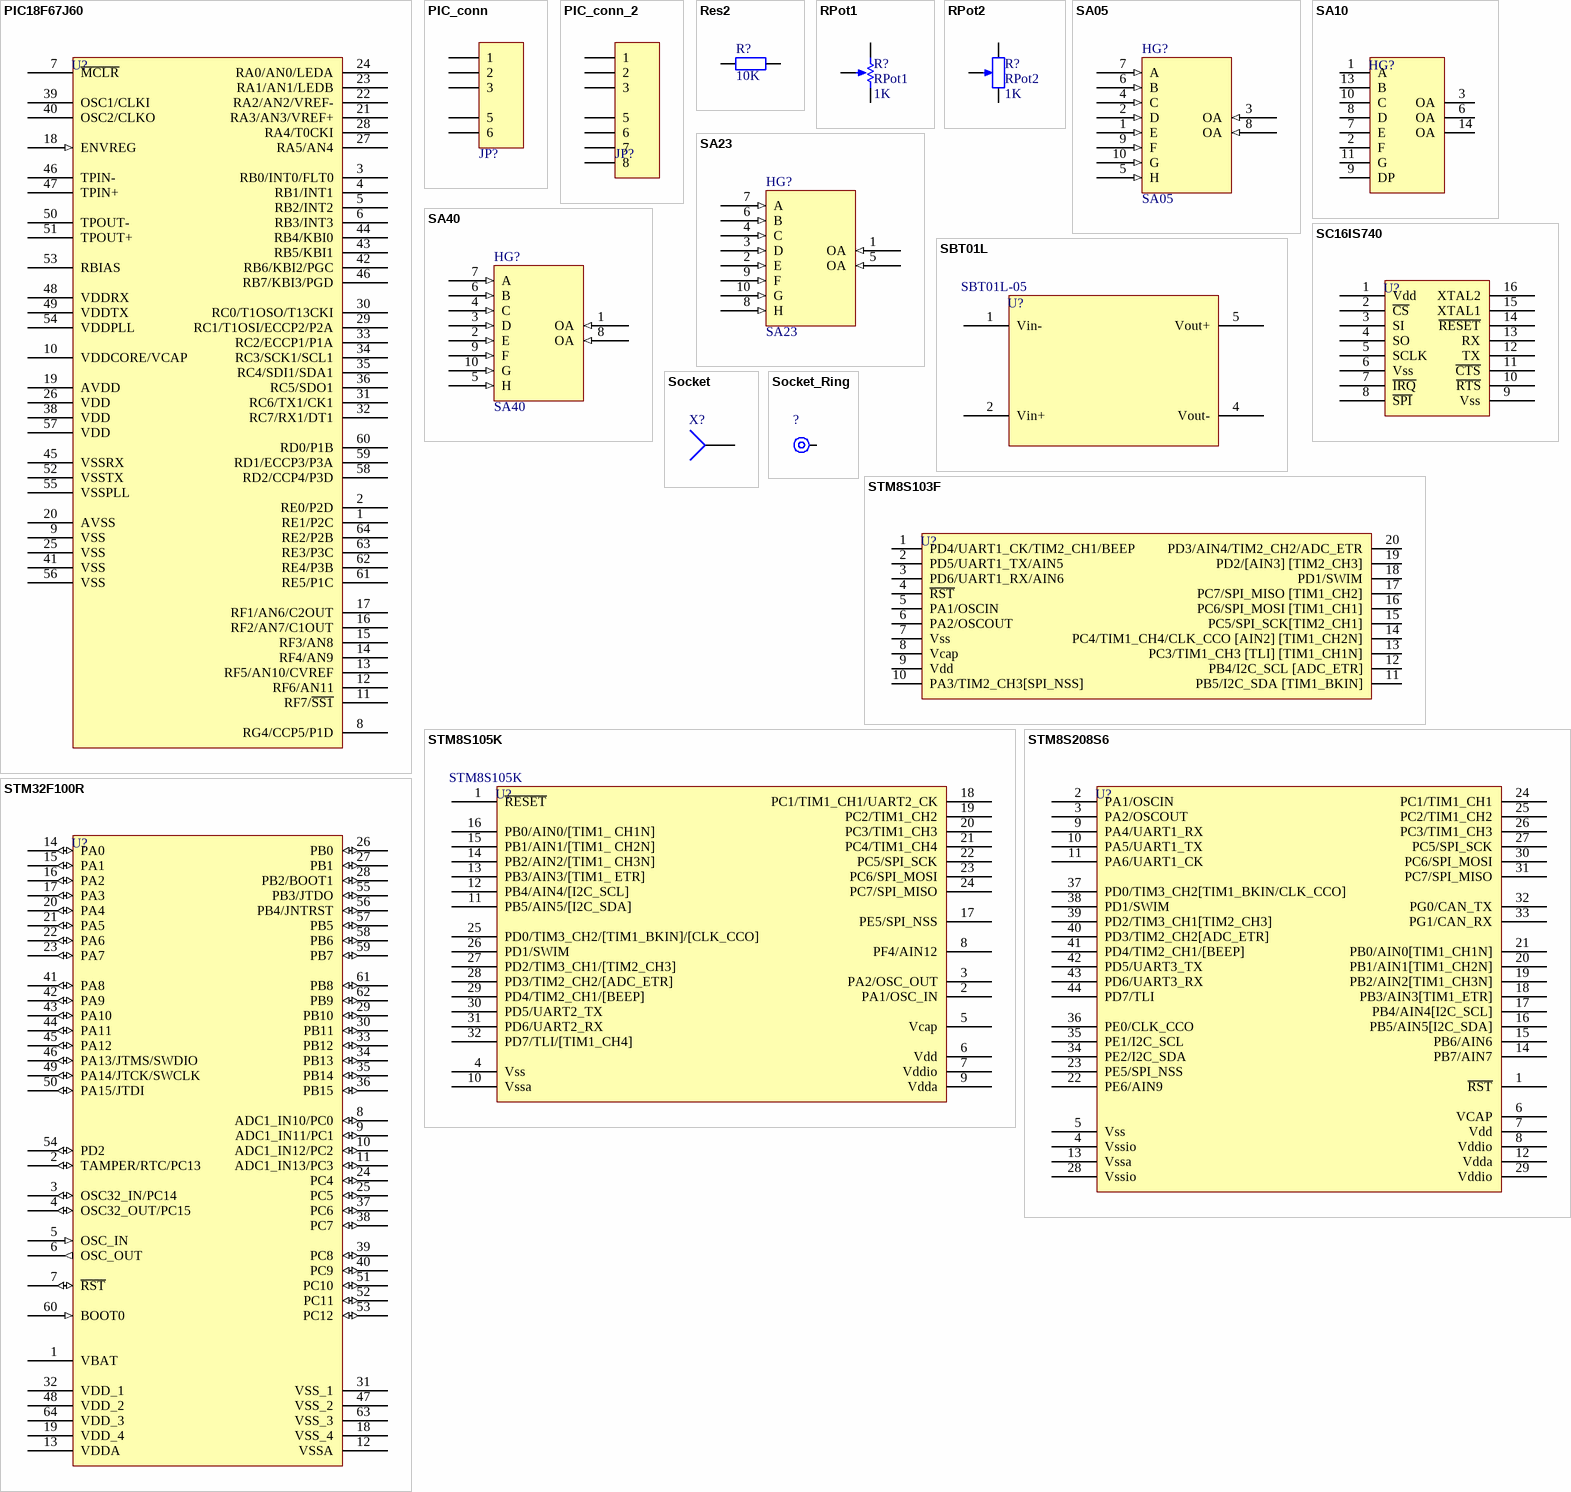
[diagram p4: symbols PIC18F67J60 to STM32F100R]

## PIC18F67J60
designator U?
pins: 1 RE1/P2C, 2 RE0/P2D, 3 RB0/INT0/FLT0, 4 RB1/INT1, 5 RB2/INT2, 6 RB3/INT3, 7 ~{MCLR}, 8 RG4/CCP5/P1D, 9 VSS, 10 VDDCORE/VCAP, 11 RF7/~{SS1}, 12 RF6/AN11, 13 RF5/AN10/CVREF, 14 RF4/AN9, 15 RF3/AN8, 16 RF2/AN7/C1OUT, 17 RF1/AN6/C2OUT, 18 ENVREG (in), 19 AVDD, 20 AVSS, 21 RA3/AN3/VREF+, 22 RA2/AN2/VREF-, 23 RA1/AN1/LEDB, 24 RA0/AN0/LEDA, 25 VSS, 26 VDD, 27 RA5/AN4, 28 RA4/T0CKI, 29 RC1/T1OSI/ECCP2/P2A, 30 RC0/T1OSO/T13CKI, 31 RC6/TX1/CK1, 32 RC7/RX1/DT1, 33 RC2/ECCP1/P1A, 34 RC3/SCK1/SCL1, 35 RC4/SDI1/SDA1, 36 RC5/SDO1, 38 VDD, 39 OSC1/CLKI, 40 OSC2/CLKO, 41 VSS, 42 RB6/KBI2/PGC, 43 RB5/KBI1, 44 RB4/KBI0, 45 VSSRX, 46 TPIN-, 46 RB7/KBI3/PGD, 47 TPIN+, 48 VDDRX, 49 VDDTX, 50 TPOUT-, 51 TPOUT+, 52 VSSTX, 53 RBIAS, 54 VDDPLL, 55 VSSPLL, 56 VSS, 57 VDD, 58 RD2/CCP4/P3D, 59 RD1/ECCP3/P3A, 60 RD0/P1B, 61 RE5/P1C, 62 RE4/P3B, 63 RE3/P3C, 64 RE2/P2B

## PIC_conn
designator JP?, comment PLS-6  (value not drawn)
Header, 7-Pin; Manufacturer: Generic Components; Class I: Connector; Revision: July-2002: Re-released for DXP Platform.; Publisher: Altium Limited
footprint PIC_CONN
pins: 1, 2, 3, 5, 6

## PIC_conn_2
designator JP?, comment PLS-6  (value not drawn)
Header, 7-Pin; Manufacturer: Generic Components; Class I: Connector; Revision: July-2002: Re-released for DXP Platform.; Publisher: Altium Limited
footprint PIC_CONN
pins: 1, 2, 3, 5, 6, 7, 8

## Res2
designator R?  value 10K  (hidden comment: Res2)
Resistor; Manufacturer: Generic Components; Class I: Passive; Published: 8-Jun-2000; Revision: July-2002: Re-released for DXP Platform.; Publisher: Altium Limited; Class II: Resistor
footprint CC3216-1206
simulation model RESISTOR (Resistor)
signal-integrity model Res2
footprint _1206
pins: 1, 2

## RPot1
designator R?  value 1K
Potentiometer; Manufacturer: Generic Components; Class I: Passive; Set Position: 0.5; Published: 8-Jun-2000; Revision: July-2002: Re-released for DXP Platform.; Publisher: Altium Limited; Class II: Potentiometer
footprint VR5
simulation model POT (Potentiometer)
pins: 1 TOP, 2 BOT, 3 TAP

## RPot2
designator R?  value 1K
Potentiometer; Manufacturer: Generic Components; Class I: Passive; Set Position: 0.5; Published: 8-Jun-2000; Revision: July-2002: Re-released for DXP Platform.; Publisher: Altium Limited; Class II: Potentiometer
footprint SP5-2
simulation model POT (Potentiometer)
pins: 1 TOP, 2 BOT, 3 TAP

## SA05
designator HG?
Right: 60; Bottom: 90
footprint DIP10
pins: 1 E (in), 2 D (in), 3 OA (in), 4 C (in), 5 H (in), 6 B (in), 7 A (in), 8 OA (in), 9 F (in), 10 G (in)

## SA10
designator HG?
pins: 1 A, 2 F, 3 OA, 6 OA, 7 E, 8 D, 9 DP, 10 C, 11 G, 13 B, 14 OA

## SA23
designator HG?
Right: 60; Bottom: 90
footprint sa23 (Footprint not found)
pins: 1 OA (in), 2 E (in), 3 D (in), 4 C (in), 5 OA (in), 6 B (in), 7 A (in), 8 H (in), 9 F (in), 10 G (in)

## SA40
designator HG?
Right: 60; Bottom: 90
footprint sa40 (Footprint not found)
pins: 1 OA (in), 2 E (in), 3 D (in), 4 C (in), 5 H (in), 6 B (in), 7 A (in), 8 OA (in), 9 F (in), 10 G (in)

## SBT01L
designator U?, comment SBT01L-05
pins: 1 Vin-, 2 Vin+, 4 Vout-, 5 Vout+

## SC16IS740
designator U?
pins: 1 Vdd, 2 ~{CS}, 3 SI, 4 SO, 5 SCLK, 6 Vss, 7 ~{IRQ}, 8 ~{SPI}, 9 Vss, 10 ~{RTS}, 11 ~{CTS}, 12 TX, 13 RX, 14 ~{RESET}, 15 XTAL1, 16 XTAL2

## Socket
designator X?
Socket; Manufacturer: Generic Components; Class I: Connector; Revision: July-2002: Re-released for DXP Platform.; Publisher: Altium Limited
footprint PIN1
signal-integrity model Connector
pins: 1

## Socket_Ring
designator ?
Socket; Manufacturer: Generic Components; Class I: Connector; Revision: July-2002: Re-released for DXP Platform.; Publisher: Altium Limited
footprint PIN1
signal-integrity model Connector
pins: 1

## STM8S103F
designator U?
footprint TSSO6x6-G20/Y1.6
pins: 1 PD4/UART1_CK/TIM2_CH1/BEEP, 2 PD5/UART1_TX/AIN5, 3 PD6/UART1_RX/AIN6, 4 ~{RST}, 5 PA1/OSCIN, 6 PA2/OSCOUT, 7 Vss, 8 Vcap, 9 Vdd, 10 PA3/TIM2_CH3[SPI_NSS] , 11 PB5/I2C_SDA [TIM1_BKIN], 12 PB4/I2C_SCL [ADC_ETR], 13 PC3/TIM1_CH3 [TLI] [TIM1_CH1N], 14 PC4/TIM1_CH4/CLK_CCO [AIN2] [TIM1_CH2N], 15 PC5/SPI_SCK[TIM2_CH1], 16 PC6/SPI_MOSI [TIM1_CH1], 17 PC7/SPI_MISO [TIM1_CH2], 18 PD1/SWIM, 19 PD2/[AIN3] [TIM2_CH3], 20 PD3/AIN4/TIM2_CH2/ADC_ETR

## STM8S105K
designator U?
footprint TSSO6x6-G20/Y1.6 (Footprint not found)
pins: 1 ~{RESET}, 2 PA1/OSC_IN, 3 PA2/OSC_OUT, 4 Vss, 5 Vcap, 6 Vdd, 7 Vddio, 8 PF4/AIN12, 9 Vdda, 10 Vssa, 11 PB5/AIN5/[I2C_SDA], 12 PB4/AIN4/[I2C_SCL], 13 PB3/AIN3/[TIM1_ ETR], 14 PB2/AIN2/[TIM1_ CH3N], 15 PB1/AIN1/[TIM1_ CH2N], 16 PB0/AIN0/[TIM1_ CH1N], 17 PE5/SPI_NSS, 18 PC1/TIM1_CH1/UART2_CK, 19 PC2/TIM1_CH2, 20 PC3/TIM1_CH3, 21 PC4/TIM1_CH4, 22 PC5/SPI_SCK, 23 PC6/SPI_MOSI, 24 PC7/SPI_MISO, 25 PD0/TIM3_CH2/[TIM1_BKIN]/[CLK_CCO], 26 PD1/SWIM, 27 PD2/TIM3_CH1/[TIM2_CH3], 28 PD3/TIM2_CH2/[ADC_ETR], 29 PD4/TIM2_CH1/[BEEP], 30 PD5/UART2_TX, 31 PD6/UART2_RX, 32 PD7/TLI/[TIM1_CH4]

## STM8S208S6
designator U?
pins: 1 ~{RST}, 2 PA1/OSCIN, 3 PA2/OSCOUT, 4 Vssio, 5 Vss, 6 VCAP, 7 Vdd, 8 Vddio, 9 PA4/UART1_RX, 10 PA5/UART1_TX, 11 PA6/UART1_CK, 12 Vdda, 13 Vssa, 14 PB7/AIN7, 15 PB6/AIN6, 16 PB5/AIN5[I2C_SDA], 17 PB4/AIN4[I2C_SCL], 18 PB3/AIN3[TIM1_ETR], 19 PB2/AIN2[TIM1_CH3N], 20 PB1/AIN1[TIM1_CH2N], 21 PB0/AIN0[TIM1_CH1N], 22 PE6/AIN9, 23 PE5/SPI_NSS, 24 PC1/TIM1_CH1, 25 PC2/TIM1_CH2, 26 PC3/TIM1_CH3, 27 PC5/SPI_SCK, 28 Vssio, 29 Vddio, 30 PC6/SPI_MOSI, 31 PC7/SPI_MISO, 32 PG0/CAN_TX, 33 PG1/CAN_RX, 34 PE2/I2C_SDA, 35 PE1/I2C_SCL, 36 PE0/CLK_CCO, 37 PD0/TIM3_CH2[TIM1_BKIN/CLK_CCO], 38 PD1/SWIM, 39 PD2/TIM3_CH1[TIM2_CH3], 40 PD3/TIM2_CH2[ADC_ETR], 41 PD4/TIM2_CH1/[BEEP], 42 PD5/UART3_TX, 43 PD6/UART3_RX, 44 PD7/TLI

## STM32F100R
designator U?
STM32 ARM-based 32-bit MCU with 64 Kbytes Flash, 64-pin LQFP, Industrial Temperature; Published: *; DatasheetVersion: *; PackageVersion: *; PackageReference: *; Publisher: *; PackageDescription: *; ComponentLink1Description: *; ComponentLink1URL: *; ComponentLink2Description: *; ComponentLink2URL: *
footprint LQFP64_N (Footprint not found)
footprint LQFP64_L
footprint LQFP64_M
pins: 1 VBAT (power), 2 TAMPER/RTC/PC13 (io), 3 OSC32_IN/PC14 (io), 4 OSC32_OUT/PC15 (io), 5 OSC_IN (in), 6 OSC_OUT (out), 7 ~{RST} (io), 8 ADC1_IN10/PC0 (io), 9 ADC1_IN11/PC1 (io), 10 ADC1_IN12/PC2 (io), 11 ADC1_IN13/PC3 (io), 12 VSSA (power), 13 VDDA (power), 14 PA0 (io), 15 PA1 (io), 16 PA2 (io), 17 PA3 (io), 18 VSS_4 (power), 19 VDD_4 (power), 20 PA4 (io), 21 PA5 (io), 22 PA6 (io), 23 PA7 (io), 24 PC4 (io), 25 PC5 (io), 26 PB0 (io), 27 PB1 (io), 28 PB2/BOOT1 (io), 29 PB10 (io), 30 PB11 (io), 31 VSS_1 (power), 32 VDD_1 (power), 33 PB12 (io), 34 PB13 (io), 35 PB14 (io), 36 PB15 (io), 37 PC6 (io), 38 PC7 (io), 39 PC8 (io), 40 PC9 (io), 41 PA8 (io), 42 PA9 (io), 43 PA10 (io), 44 PA11 (io), 45 PA12 (io), 46 PA13/JTMS/SWDIO (io), 47 VSS_2 (power), 48 VDD_2 (power), 49 PA14/JTCK/SWCLK (io), 50 PA15/JTDI (io), 51 PC10 (io), 52 PC11 (io), 53 PC12 (io), 54 PD2 (io), 55 PB3/JTDO (io), 56 PB4/JNTRST (io), 57 PB5 (io), 58 PB6 (io), 59 PB7 (io), 60 BOOT0 (in), 61 PB8 (io), 62 PB9 (io), 63 VSS_3 (power), 64 VDD_3 (power)
2 alternate drawings of the same symbol

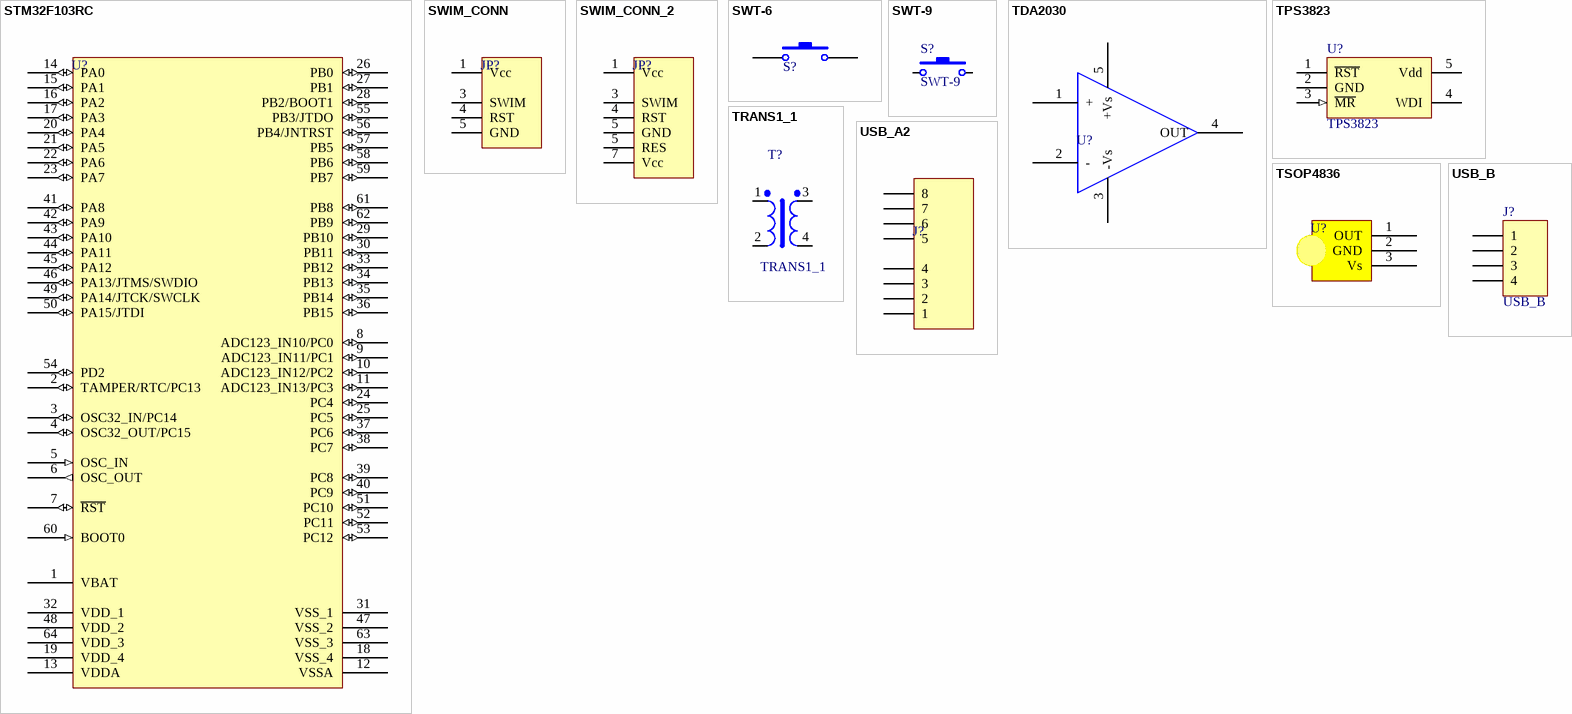
[diagram p5: symbols STM32F103RC to USB_B]

## STM32F103RC
designator U?
STM32 ARM-based 32-bit MCU with 64 Kbytes Flash, 64-pin LQFP, Industrial Temperature; Published: *; DatasheetVersion: *; PackageVersion: *; PackageReference: *; Publisher: *; PackageDescription: *; ComponentLink1Description: *; ComponentLink1URL: *; ComponentLink2Description: *; ComponentLink2URL: *
footprint LQFP64_N (Footprint not found)
footprint LQFP64_L
footprint LQFP64_M
pins: 1 VBAT (power), 2 TAMPER/RTC/PC13 (io), 3 OSC32_IN/PC14 (io), 4 OSC32_OUT/PC15 (io), 5 OSC_IN (in), 6 OSC_OUT (out), 7 ~{RST} (io), 8 ADC123_IN10/PC0 (io), 9 ADC123_IN11/PC1 (io), 10 ADC123_IN12/PC2 (io), 11 ADC123_IN13/PC3 (io), 12 VSSA (power), 13 VDDA (power), 14 PA0 (io), 15 PA1 (io), 16 PA2 (io), 17 PA3 (io), 18 VSS_4 (power), 19 VDD_4 (power), 20 PA4 (io), 21 PA5 (io), 22 PA6 (io), 23 PA7 (io), 24 PC4 (io), 25 PC5 (io), 26 PB0 (io), 27 PB1 (io), 28 PB2/BOOT1 (io), 29 PB10 (io), 30 PB11 (io), 31 VSS_1 (power), 32 VDD_1 (power), 33 PB12 (io), 34 PB13 (io), 35 PB14 (io), 36 PB15 (io), 37 PC6 (io), 38 PC7 (io), 39 PC8 (io), 40 PC9 (io), 41 PA8 (io), 42 PA9 (io), 43 PA10 (io), 44 PA11 (io), 45 PA12 (io), 46 PA13/JTMS/SWDIO (io), 47 VSS_2 (power), 48 VDD_2 (power), 49 PA14/JTCK/SWCLK (io), 50 PA15/JTDI (io), 51 PC10 (io), 52 PC11 (io), 53 PC12 (io), 54 PD2 (io), 55 PB3/JTDO (io), 56 PB4/JNTRST (io), 57 PB5 (io), 58 PB6 (io), 59 PB7 (io), 60 BOOT0 (in), 61 PB8 (io), 62 PB9 (io), 63 VSS_3 (power), 64 VDD_3 (power)
2 alternate drawings of the same symbol

## SWIM_CONN
designator JP?
footprint HDR1X5_uart
pins: 1 Vcc, 3 SWIM, 4 RST, 5 GND

## SWIM_CONN_2
designator JP?
footprint HDR1X5_uart
pins: 1 Vcc, 3 SWIM, 4 RST, 5 GND, 5 RES, 7 Vcc

## SWT-6
designator S?  (value not drawn)
Switch; Manufacturer: Generic Components; Published: 24-Mar-1999; Revision: July-2002: Re-released for DXP Platform.; Publisher: Altium Limited
footprint SWT-6
pins: 1, 2

## SWT-9
designator S?
Switch; Manufacturer: Generic Components; Published: 24-Mar-1999; Revision: July-2002: Re-released for DXP Platform.; Publisher: Altium Limited
footprint SWT-9
pins: 1, 2

## TDA2030
designator U?
footprint Pentawatt (Footprint not found)
pins: 1 +, 2 -, 3 -Vs, 4 OUT, 5 +Vs

## TPS3823
designator U?
Reset IC; Manufacturer: National Semiconductor; Package Information: Latest Revision: Aug-1999; Class I: Power Management; Class II: Voltage Regulator; Value: TPS76333; Published: 15-Apr-2002; Datasheet: Latest Revision: Oct-1999; Package Reference: MA05B; Publisher: Altium Limited
footprint SO-G5/P.95
pins: 1 ~{RST} (power), 2 GND (power), 3 ~{MR} (in), 4 WDI, 5 Vdd (power)

## TRANS1_1
designator T?
Manufacturer: Generic Components; Class I: Passive; Class II: Transformer; Published: 25-Jan-2001; Revision: July-2002: Re-released for DXP Platform.; Publisher: Altium Limited
footprint TSP81
pins: 1 Pri+, 2 Pri-, 3 Sec1+, 4 Sec1-

## TSOP4836
designator U?
pins: 1 OUT, 2 GND, 3 Vs

## USB_A2
designator J?
pins: 1, 2, 3, 4, 5, 6, 7, 8

## USB_B
designator J?
footprint USB_B
pins: 1, 2, 3, 4

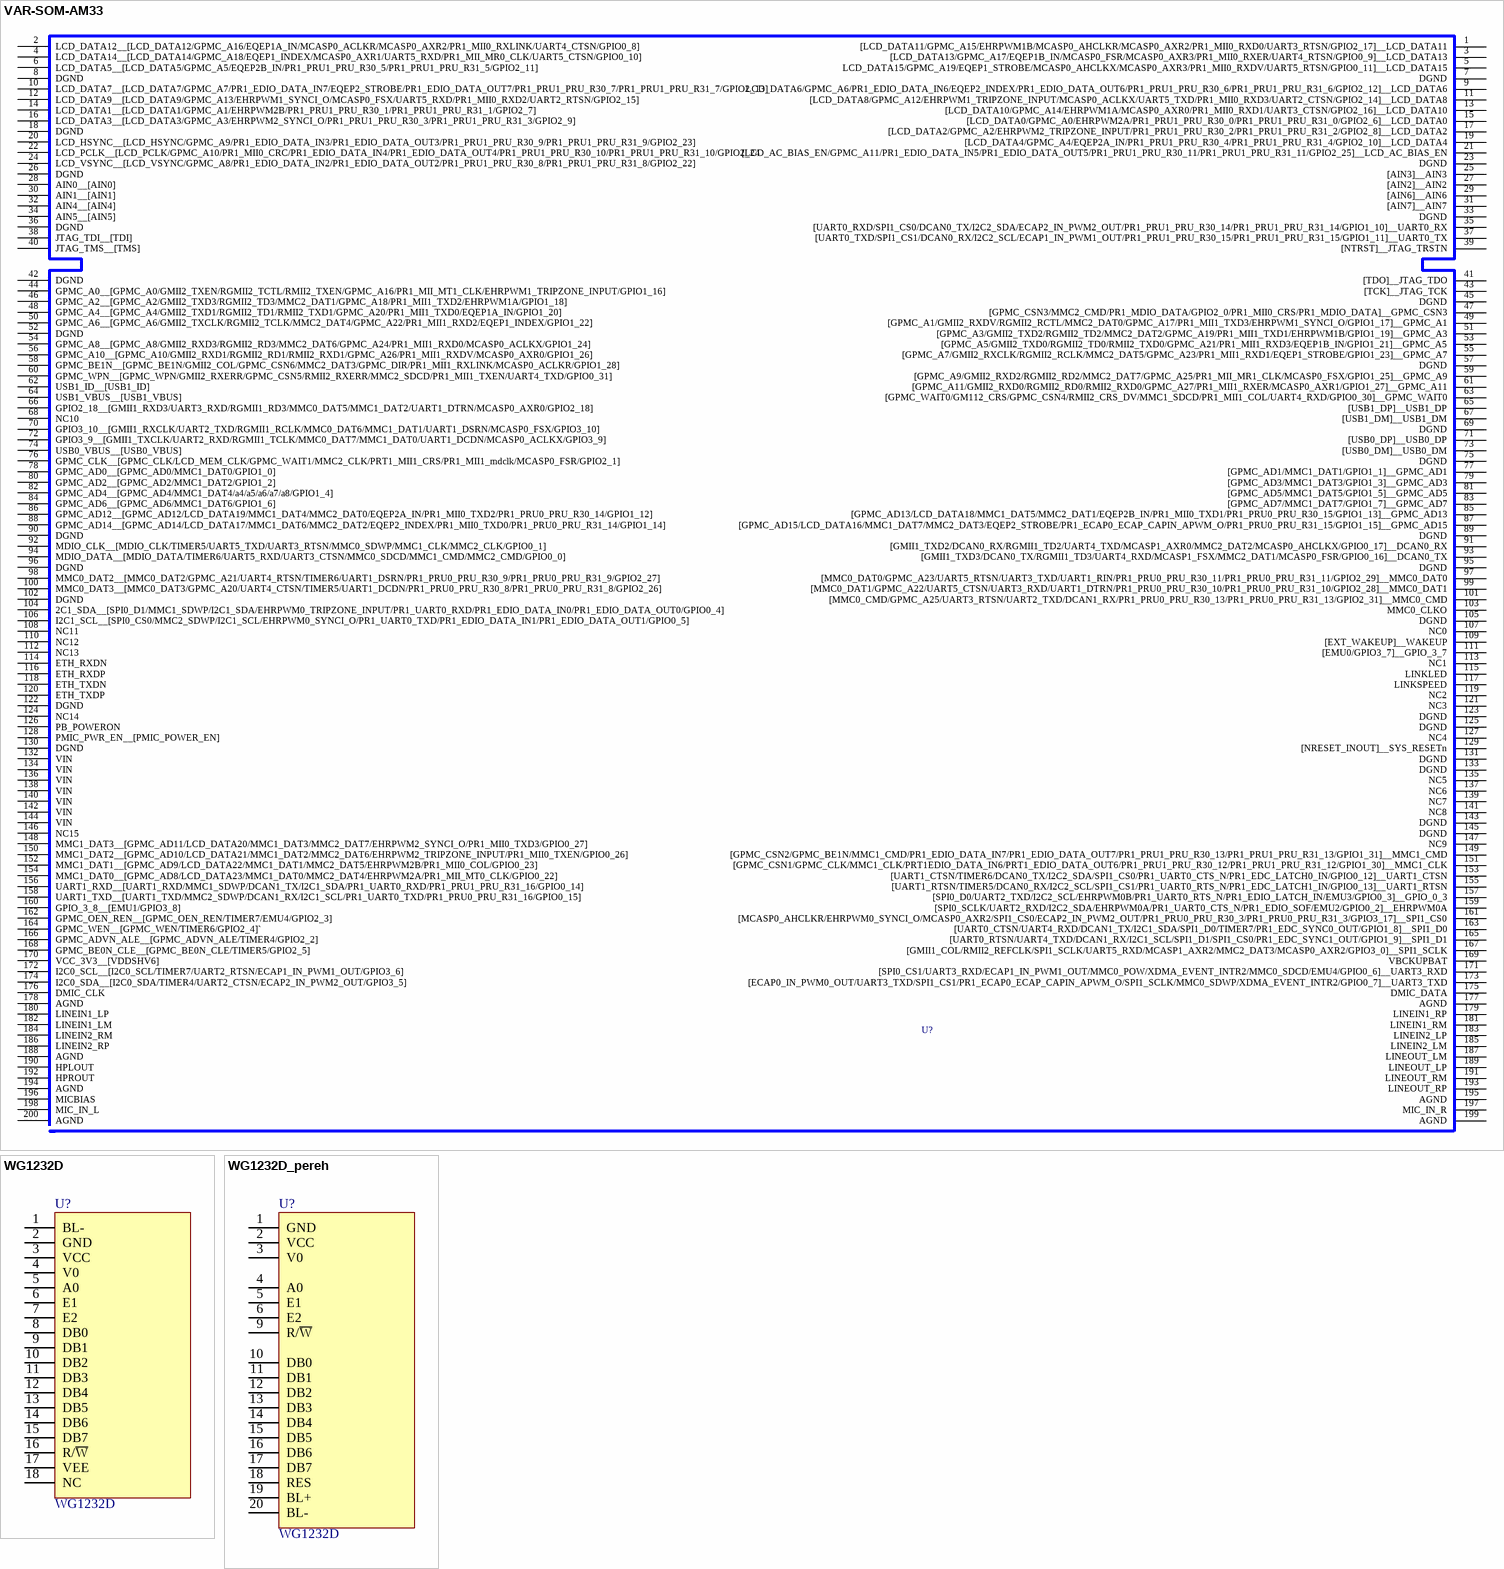
[diagram p6: symbols VAR-SOM-AM33 to WG1232D_pereh]

## VAR-SOM-AM33
designator U?
pins: 1 [LCD_DATA11/GPMC_A15/EHRPWM1B/MCASP0_AHCLKR/MCASP0_AXR2/PR1_MII0_RXD0/UART3_RTSN/GPIO2_17]__LCD_DATA11, 2 LCD_DATA12__[LCD_DATA12/GPMC_A16/EQEP1A_IN/MCASP0_ACLKR/MCASP0_AXR2/PR1_MII0_RXLINK/UART4_CTSN/GPIO0_8], 3 [LCD_DATA13/GPMC_A17/EQEP1B_IN/MCASP0_FSR/MCASP0_AXR3/PR1_MII0_RXER/UART4_RTSN/GPIO0_9]__LCD_DATA13, 4 LCD_DATA14__[LCD_DATA14/GPMC_A18/EQEP1_INDEX/MCASP0_AXR1/UART5_RXD/PR1_MII_MR0_CLK/UART5_CTSN/GPIO0_10], 5 LCD_DATA15/GPMC_A19/EQEP1_STROBE/MCASP0_AHCLKX/MCASP0_AXR3/PR1_MII0_RXDV/UART5_RTSN/GPIO0_11]__LCD_DATA15, 6 LCD_DATA5__[LCD_DATA5/GPMC_A5/EQEP2B_IN/PR1_PRU1_PRU_R30_5/PR1_PRU1_PRU_R31_5/GPIO2_11], 7 DGND, 8 DGND, 9 LCD_DATA6/GPMC_A6/PR1_EDIO_DATA_IN6/EQEP2_INDEX/PR1_EDIO_DATA_OUT6/PR1_PRU1_PRU_R30_6/PR1_PRU1_PRU_R31_6/GPIO2_12]__LCD_DATA6, 10 LCD_DATA7__[LCD_DATA7/GPMC_A7/PR1_EDIO_DATA_IN7/EQEP2_STROBE/PR1_EDIO_DATA_OUT7/PR1_PRU1_PRU_R30_7/PR1_PRU1_PRU_R31_7/GPIO2_13], 11 [LCD_DATA8/GPMC_A12/EHRPWM1_TRIPZONE_INPUT/MCASP0_ACLKX/UART5_TXD/PR1_MII0_RXD3/UART2_CTSN/GPIO2_14]__LCD_DATA8, 12 LCD_DATA9__[LCD_DATA9/GPMC_A13/EHRPWM1_SYNCI_O/MCASP0_FSX/UART5_RXD/PR1_MII0_RXD2/UART2_RTSN/GPIO2_15], 13 [LCD_DATA10/GPMC_A14/EHRPWM1A/MCASP0_AXR0/PR1_MII0_RXD1/UART3_CTSN/GPIO2_16]__LCD_DATA10, 14 LCD_DATA1__[LCD_DATA1/GPMC_A1/EHRPWM2B/PR1_PRU1_PRU_R30_1/PR1_PRU1_PRU_R31_1/GPIO2_7], 15 [LCD_DATA0/GPMC_A0/EHRPWM2A/PR1_PRU1_PRU_R30_0/PR1_PRU1_PRU_R31_0/GPIO2_6]__LCD_DATA0, 16 LCD_DATA3__[LCD_DATA3/GPMC_A3/EHRPWM2_SYNCI_O/PR1_PRU1_PRU_R30_3/PR1_PRU1_PRU_R31_3/GPIO2_9], 17 [LCD_DATA2/GPMC_A2/EHRPWM2_TRIPZONE_INPUT/PR1_PRU1_PRU_R30_2/PR1_PRU1_PRU_R31_2/GPIO2_8]__LCD_DATA2, 18 DGND, 19 [LCD_DATA4/GPMC_A4/EQEP2A_IN/PR1_PRU1_PRU_R30_4/PR1_PRU1_PRU_R31_4/GPIO2_10]__LCD_DATA4, 20 LCD_HSYNC__[LCD_HSYNC/GPMC_A9/PR1_EDIO_DATA_IN3/PR1_EDIO_DATA_OUT3/PR1_PRU1_PRU_R30_9/PR1_PRU1_PRU_R31_9/GPIO2_23], 21 [LCD_AC_BIAS_EN/GPMC_A11/PR1_EDIO_DATA_IN5/PR1_EDIO_DATA_OUT5/PR1_PRU1_PRU_R30_11/PR1_PRU1_PRU_R31_11/GPIO2_25]__LCD_AC_BIAS_EN, 22 LCD_PCLK__[LCD_PCLK/GPMC_A10/PR1_MII0_CRC/PR1_EDIO_DATA_IN4/PR1_EDIO_DATA_OUT4/PR1_PRU1_PRU_R30_10/PR1_PRU1_PRU_R31_10/GPIO2_24, 23 DGND, 24 LCD_VSYNC__[LCD_VSYNC/GPMC_A8/PR1_EDIO_DATA_IN2/PR1_EDIO_DATA_OUT2/PR1_PRU1_PRU_R30_8/PR1_PRU1_PRU_R31_8/GPIO2_22], 25 [AIN3]__AIN3, 26 DGND, 27 [AIN2]__AIN2, 28 AIN0__[AIN0], 29 [AIN6]__AIN6, 30 AIN1__[AIN1], 31 [AIN7]__AIN7, 32 AIN4__[AIN4], 33 DGND, 34 AIN5__[AIN5], 35 [UART0_RXD/SPI1_CS0/DCAN0_TX/I2C2_SDA/ECAP2_IN_PWM2_OUT/PR1_PRU1_PRU_R30_14/PR1_PRU1_PRU_R31_14/GPIO1_10]__UART0_RX, 36 DGND, 37 [UART0_TXD/SPI1_CS1/DCAN0_RX/I2C2_SCL/ECAP1_IN_PWM1_OUT/PR1_PRU1_PRU_R30_15/PR1_PRU1_PRU_R31_15/GPIO1_11]__UART0_TX, 38 JTAG_TDI__[TDI], 39 [NTRST]__JTAG_TRSTN, 40 JTAG_TMS__[TMS], 41 [TDO]__JTAG_TDO, 42 DGND, 43 [TCK]__JTAG_TCK, 44 GPMC_A0__[GPMC_A0/GMII2_TXEN/RGMII2_TCTL/RMII2_TXEN/GPMC_A16/PR1_MII_MT1_CLK/EHRPWM1_TRIPZONE_INPUT/GPIO1_16], 45 DGND, 46 GPMC_A2__[GPMC_A2/GMII2_TXD3/RGMII2_TD3/MMC2_DAT1/GPMC_A18/PR1_MII1_TXD2/EHRPWM1A/GPIO1_18], 47 [GPMC_CSN3/MMC2_CMD/PR1_MDIO_DATA/GPIO2_0/PR1_MII0_CRS/PR1_MDIO_DATA]__GPMC_CSN3, 48 GPMC_A4__[GPMC_A4/GMII2_TXD1/RGMII2_TD1/RMII2_TXD1/GPMC_A20/PR1_MII1_TXD0/EQEP1A_IN/GPIO1_20], 49 [GPMC_A1/GMII2_RXDV/RGMII2_RCTL/MMC2_DAT0/GPMC_A17/PR1_MII1_TXD3/EHRPWM1_SYNCI_O/GPIO1_17]__GPMC_A1, 50 GPMC_A6__[GPMC_A6/GMII2_TXCLK/RGMII2_TCLK/MMC2_DAT4/GPMC_A22/PR1_MII1_RXD2/EQEP1_INDEX/GPIO1_22], 51 [GPMC_A3/GMII2_TXD2/RGMII2_TD2/MMC2_DAT2/GPMC_A19/PR1_MII1_TXD1/EHRPWM1B/GPIO1_19]__GPMC_A3, 52 DGND, 53 [GPMC_A5/GMII2_TXD0/RGMII2_TD0/RMII2_TXD0/GPMC_A21/PR1_MII1_RXD3/EQEP1B_IN/GPIO1_21]__GPMC_A5, 54 GPMC_A8__[GPMC_A8/GMII2_RXD3/RGMII2_RD3/MMC2_DAT6/GPMC_A24/PR1_MII1_RXD0/MCASP0_ACLKX/GPIO1_24], 55 [GPMC_A7/GMII2_RXCLK/RGMII2_RCLK/MMC2_DAT5/GPMC_A23/PR1_MII1_RXD1/EQEP1_STROBE/GPIO1_23]__GPMC_A7, 56 GPMC_A10__[GPMC_A10/GMII2_RXD1/RGMII2_RD1/RMII2_RXD1/GPMC_A26/PR1_MII1_RXDV/MCASP0_AXR0/GPIO1_26], 57 DGND, 58 GPMC_BE1N__[GPMC_BE1N/GMII2_COL/GPMC_CSN6/MMC2_DAT3/GPMC_DIR/PR1_MII1_RXLINK/MCASP0_ACLKR/GPIO1_28], 59 [GPMC_A9/GMII2_RXD2/RGMII2_RD2/MMC2_DAT7/GPMC_A25/PR1_MII_MR1_CLK/MCASP0_FSX/GPIO1_25]__GPMC_A9, 60 GPMC_WPN__[GPMC_WPN/GMII2_RXERR/GPMC_CSN5/RMII2_RXERR/MMC2_SDCD/PR1_MII1_TXEN/UART4_TXD/GPIO0_31], 61 [GPMC_A11/GMII2_RXD0/RGMII2_RD0/RMII2_RXD0/GPMC_A27/PR1_MII1_RXER/MCASP0_AXR1/GPIO1_27]__GPMC_A11, 62 USB1_ID__[USB1_ID], 63 [GPMC_WAIT0/GM112_CRS/GPMC_CSN4/RMII2_CRS_DV/MMC1_SDCD/PR1_MII1_COL/UART4_RXD/GPIO0_30]__GPMC_WAIT0, 64 USB1_VBUS__[USB1_VBUS], 65 [USB1_DP]__USB1_DP, 66 GPIO2_18__[GMII1_RXD3/UART3_RXD/RGMII1_RD3/MMC0_DAT5/MMC1_DAT2/UART1_DTRN/MCASP0_AXR0/GPIO2_18], 67 [USB1_DM]__USB1_DM, 68 NC10, 69 DGND, 70 GPIO3_10__[GMII1_RXCLK/UART2_TXD/RGMII1_RCLK/MMC0_DAT6/MMC1_DAT1/UART1_DSRN/MCASP0_FSX/GPIO3_10], 71 [USB0_DP]__USB0_DP, 72 GPIO3_9__[GMII1_TXCLK/UART2_RXD/RGMII1_TCLK/MMC0_DAT7/MMC1_DAT0/UART1_DCDN/MCASP0_ACLKX/GPIO3_9], 73 [USB0_DM]__USB0_DM, 74 USB0_VBUS__[USB0_VBUS], 75 DGND, 76 GPMC_CLK__[GPMC_CLK/LCD_MEM_CLK/GPMC_WAIT1/MMC2_CLK/PRT1_MII1_CRS/PR1_MII1_mdclk/MCASP0_FSR/GPIO2_1], 77 [GPMC_AD1/MMC1_DAT1/GPIO1_1]__GPMC_AD1, 78 GPMC_AD0__[GPMC_AD0/MMC1_DAT0/GPIO1_0], 79 [GPMC_AD3/MMC1_DAT3/GPIO1_3]__GPMC_AD3, 80 GPMC_AD2__[GPMC_AD2/MMC1_DAT2/GPIO1_2], 81 [GPMC_AD5/MMC1_DAT5/GPIO1_5]__GPMC_AD5, 82 GPMC_AD4__[GPMC_AD4/MMC1_DAT4/a4/a5/a6/a7/a8/GPIO1_4], 83 [GPMC_AD7/MMC1_DAT7/GPIO1_7]__GPMC_AD7, 84 GPMC_AD6__[GPMC_AD6/MMC1_DAT6/GPIO1_6], 85 [GPMC_AD13/LCD_DATA18/MMC1_DAT5/MMC2_DAT1/EQEP2B_IN/PR1_MII0_TXD1/PR1_PRU0_PRU_R30_15/GPIO1_13]__GPMC_AD13, 86 GPMC_AD12__[GPMC_AD12/LCD_DATA19/MMC1_DAT4/MMC2_DAT0/EQEP2A_IN/PR1_MII0_TXD2/PR1_PRU0_PRU_R30_14/GPIO1_12], 87 [GPMC_AD15/LCD_DATA16/MMC1_DAT7/MMC2_DAT3/EQEP2_STROBE/PR1_ECAP0_ECAP_CAPIN_APWM_O/PR1_PRU0_PRU_R31_15/GPIO1_15]__GPMC_AD15, 88 GPMC_AD14__[GPMC_AD14/LCD_DATA17/MMC1_DAT6/MMC2_DAT2/EQEP2_INDEX/PR1_MII0_TXD0/PR1_PRU0_PRU_R31_14/GPIO1_14], 89 DGND, 90 DGND, 91 [GMII1_TXD2/DCAN0_RX/RGMII1_TD2/UART4_TXD/MCASP1_AXR0/MMC2_DAT2/MCASP0_AHCLKX/GPIO0_17]__DCAN0_RX, 92 MDIO_CLK__[MDIO_CLK/TIMER5/UART5_TXD/UART3_RTSN/MMC0_SDWP/MMC1_CLK/MMC2_CLK/GPIO0_1], 93 [GMII1_TXD3/DCAN0_TX/RGMII1_TD3/UART4_RXD/MCASP1_FSX/MMC2_DAT1/MCASP0_FSR/GPIO0_16]__DCAN0_TX, 94 MDIO_DATA__[MDIO_DATA/TIMER6/UART5_RXD/UART3_CTSN/MMC0_SDCD/MMC1_CMD/MMC2_CMD/GPIO0_0], 95 DGND, 96 DGND, 97 [MMC0_DAT0/GPMC_A23/UART5_RTSN/UART3_TXD/UART1_RIN/PR1_PRU0_PRU_R30_11/PR1_PRU0_PRU_R31_11/GPIO2_29]__MMC0_DAT0, 98 MMC0_DAT2__[MMC0_DAT2/GPMC_A21/UART4_RTSN/TIMER6/UART1_DSRN/PR1_PRU0_PRU_R30_9/PR1_PRU0_PRU_R31_9/GPIO2_27], 99 [MMC0_DAT1/GPMC_A22/UART5_CTSN/UART3_RXD/UART1_DTRN/PR1_PRU0_PRU_R30_10/PR1_PRU0_PRU_R31_10/GPIO2_28]__MMC0_DAT1, 100 MMC0_DAT3__[MMC0_DAT3/GPMC_A20/UART4_CTSN/TIMER5/UART1_DCDN/PR1_PRU0_PRU_R30_8/PR1_PRU0_PRU_R31_8/GPIO2_26], 101 [MMC0_CMD/GPMC_A25/UART3_RTSN/UART2_TXD/DCAN1_RX/PR1_PRU0_PRU_R30_13/PR1_PRU0_PRU_R31_13/GPIO2_31]__MMC0_CMD, 102 DGND, 103 MMC0_CLKO, 104 2C1_SDA__[SPI0_D1/MMC1_SDWP/I2C1_SDA/EHRPWM0_TRIPZONE_INPUT/PR1_UART0_RXD/PR1_EDIO_DATA_IN0/PR1_EDIO_DATA_OUT0/GPIO0_4], 105 DGND, 106 I2C1_SCL__[SPI0_CS0/MMC2_SDWP/I2C1_SCL/EHRPWM0_SYNCI_O/PR1_UART0_TXD/PR1_EDIO_DATA_IN1/PR1_EDIO_DATA_OUT1/GPIO0_5], 107 NC0, 108 NC11, 109 [EXT_WAKEUP]__WAKEUP, 110 NC12, 111 [EMU0/GPIO3_7]__GPIO_3_7, 112 NC13, 113 NC1, 114 ETH_RXDN, 115 LINKLED, 116 ETH_RXDP, 117 LINKSPEED, 118 ETH_TXDN, 119 NC2, 120 ETH_TXDP, 121 NC3, 122 DGND, 123 DGND, 124 NC14, 125 DGND, 126 PB_POWERON, 127 NC4, 128 PMIC_PWR_EN__[PMIC_POWER_EN], 129 [NRESET_INOUT]__SYS_RESETn, 130 DGND, 131 DGND, 132 VIN, 133 DGND, 134 VIN, 135 NC5, 136 VIN, 137 NC6, 138 VIN, 139 NC7, 140 VIN, 141 NC8, 142 VIN, 143 DGND, 144 VIN, 145 DGND, 146 NC15, 147 NC9, 148 MMC1_DAT3__[GPMC_AD11/LCD_DATA20/MMC1_DAT3/MMC2_DAT7/EHRPWM2_SYNCI_O/PR1_MII0_TXD3/GPIO0_27], 149 [GPMC_CSN2/GPMC_BE1N/MMC1_CMD/PR1_EDIO_DATA_IN7/PR1_EDIO_DATA_OUT7/PR1_PRU1_PRU_R30_13/PR1_PRU1_PRU_R31_13/GPIO1_31]__MMC1_CMD, 150 MMC1_DAT2__[GPMC_AD10/LCD_DATA21/MMC1_DAT2/MMC2_DAT6/EHRPWM2_TRIPZONE_INPUT/PR1_MII0_TXEN/GPIO0_26], 151 [GPMC_CSN1/GPMC_CLK/MMC1_CLK/PRT1EDIO_DATA_IN6/PRT1_EDIO_DATA_OUT6/PR1_PRU1_PRU_R30_12/PR1_PRU1_PRU_R31_12/GPIO1_30]__MMC1_CLK, 152 MMC1_DAT1__[GPMC_AD9/LCD_DATA22/MMC1_DAT1/MMC2_DAT5/EHRPWM2B/PR1_MII0_COL/GPIO0_23], 153 [UART1_CTSN/TIMER6/DCAN0_TX/I2C2_SDA/SPI1_CS0/PR1_UART0_CTS_N/PR1_EDC_LATCH0_IN/GPIO0_12]__UART1_CTSN, 154 MMC1_DAT0__[GPMC_AD8/LCD_DATA23/MMC1_DAT0/MMC2_DAT4/EHRPWM2A/PR1_MII_MT0_CLK/GPIO0_22], 155 [UART1_RTSN/TIMER5/DCAN0_RX/I2C2_SCL/SPI1_CS1/PR1_UART0_RTS_N/PR1_EDC_LATCH1_IN/GPIO0_13]__UART1_RTSN, 156 UART1_RXD__[UART1_RXD/MMC1_SDWP/DCAN1_TX/I2C1_SDA/PR1_UART0_RXD/PR1_PRU1_PRU_R31_16/GPIO0_14], 157 [SPI0_D0/UART2_TXD/I2C2_SCL/EHRPWM0B/PR1_UART0_RTS_N/PR1_EDIO_LATCH_IN/EMU3/GPIO0_3]__GPIO_0_3, 158 UART1_TXD__[UART1_TXD/MMC2_SDWP/DCAN1_RX/I2C1_SCL/PR1_UART0_TXD/PR1_PRU0_PRU_R31_16/GPIO0_15], 159 [SPI0_SCLK/UART2_RXD/I2C2_SDA/EHRPWM0A/PR1_UART0_CTS_N/PR1_EDIO_SOF/EMU2/GPIO0_2]__EHRPWM0A, 160 GPIO_3_8__[EMU1/GPIO3_8], 161 [MCASP0_AHCLKR/EHRPWM0_SYNCI_O/MCASP0_AXR2/SPI1_CS0/ECAP2_IN_PWM2_OUT/PR1_PRU0_PRU_R30_3/PR1_PRU0_PRU_R31_3/GPIO3_17]__SPI1_CS0, 162 GPMC_OEN_REN__[GPMC_OEN_REN/TIMER7/EMU4/GPIO2_3], 163 [UART0_CTSN/UART4_RXD/DCAN1_TX/I2C1_SDA/SPI1_D0/TIMER7/PR1_EDC_SYNC0_OUT/GPIO1_8]__SPI1_D0, 164 GPMC_WEN__[GPMC_WEN/TIMER6/GPIO2_4]`, 165 [UART0_RTSN/UART4_TXD/DCAN1_RX/I2C1_SCL/SPI1_D1/SPI1_CS0/PR1_EDC_SYNC1_OUT/GPIO1_9]__SPI1_D1, 166 GPMC_ADVN_ALE__[GPMC_ADVN_ALE/TIMER4/GPIO2_2], 167 [GMII1_COL/RMII2_REFCLK/SPI1_SCLK/UART5_RXD/MCASP1_AXR2/MMC2_DAT3/MCASP0_AXR2/GPIO3_0]__SPI1_SCLK, 168 GPMC_BE0N_CLE__[GPMC_BE0N_CLE/TIMER5/GPIO2_5], 169 VBCKUPBAT, 170 VCC_3V3__[VDDSHV6], 171 [SPI0_CS1/UART3_RXD/ECAP1_IN_PWM1_OUT/MMC0_POW/XDMA_EVENT_INTR2/MMC0_SDCD/EMU4/GPIO0_6]__UART3_RXD, 172 I2C0_SCL__[I2C0_SCL/TIMER7/UART2_RTSN/ECAP1_IN_PWM1_OUT/GPIO3_6], 173 [ECAP0_IN_PWM0_OUT/UART3_TXD/SPI1_CS1/PR1_ECAP0_ECAP_CAPIN_APWM_O/SPI1_SCLK/MMC0_SDWP/XDMA_EVENT_INTR2/GPIO0_7]__UART3_TXD, 174 I2C0_SDA__[I2C0_SDA/TIMER4/UART2_CTSN/ECAP2_IN_PWM2_OUT/GPIO3_5], 175 DMIC_DATA, 176 DMIC_CLK, 177 AGND, 178 AGND, 179 LINEIN1_RP, 180 LINEIN1_LP, 181 LINEIN1_RM, 182 LINEIN1_LM, 183 LINEIN2_LP, 184 LINEIN2_RM, 185 LINEIN2_LM, 186 LINEIN2_RP, 187 LINEOUT_LM, 188 AGND, 189 LINEOUT_LP, 190 HPLOUT, 191 LINEOUT_RM, 192 HPROUT, 193 LINEOUT_RP, 194 AGND, 195 AGND, 196 MICBIAS, 197 MIC_IN_R, 198 MIC_IN_L, 199 AGND, 200 AGND

## WG1232D
designator U?
footprint AG1232G
pins: 1 BL-, 2 GND, 3 VCC, 4 V0, 5 A0, 6 E1, 7 E2, 8 DB0, 9 DB1, 10 DB2, 11 DB3, 12 DB4, 13 DB5, 14 DB6, 15 DB7, 16 R/~{W}, 17 VEE, 18 NC

## WG1232D_pereh
designator U?, comment WG1232D
footprint AG1232G
pins: 1 GND, 2 VCC, 3 V0, 4 A0, 5 E1, 6 E2, 9 R/~{W}, 10 DB0, 11 DB1, 12 DB2, 13 DB3, 14 DB4, 15 DB5, 16 DB6, 17 DB7, 18 RES, 19 BL+, 20 BL-

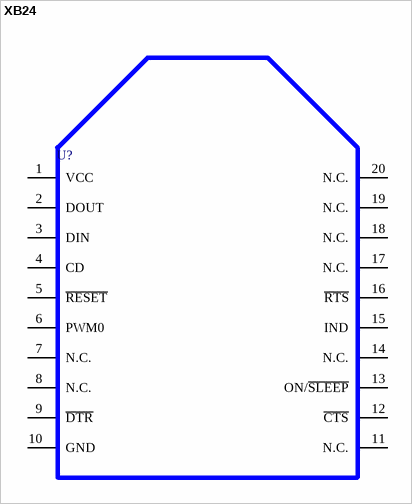
[diagram p7: symbol XB24]

## XB24
designator U?
pins: 1 VCC, 2 DOUT, 3 DIN, 4 CD, 5 ~{RESET}, 6 PWM0, 7 N.C., 8 N.C., 9 ~{DTR}, 10 GND, 11 N.C., 12 ~{CTS}, 13 ON/~{SLEEP}, 14 N.C., 15 IND, 16 ~{RTS}, 17 N.C., 18 N.C., 19 N.C., 20 N.C.